# Altium integrated library Opamps.IntLib: 372 symbols (part 1 of 2)
Pins are listed as number, name and electrical type; pins without a type are passive.

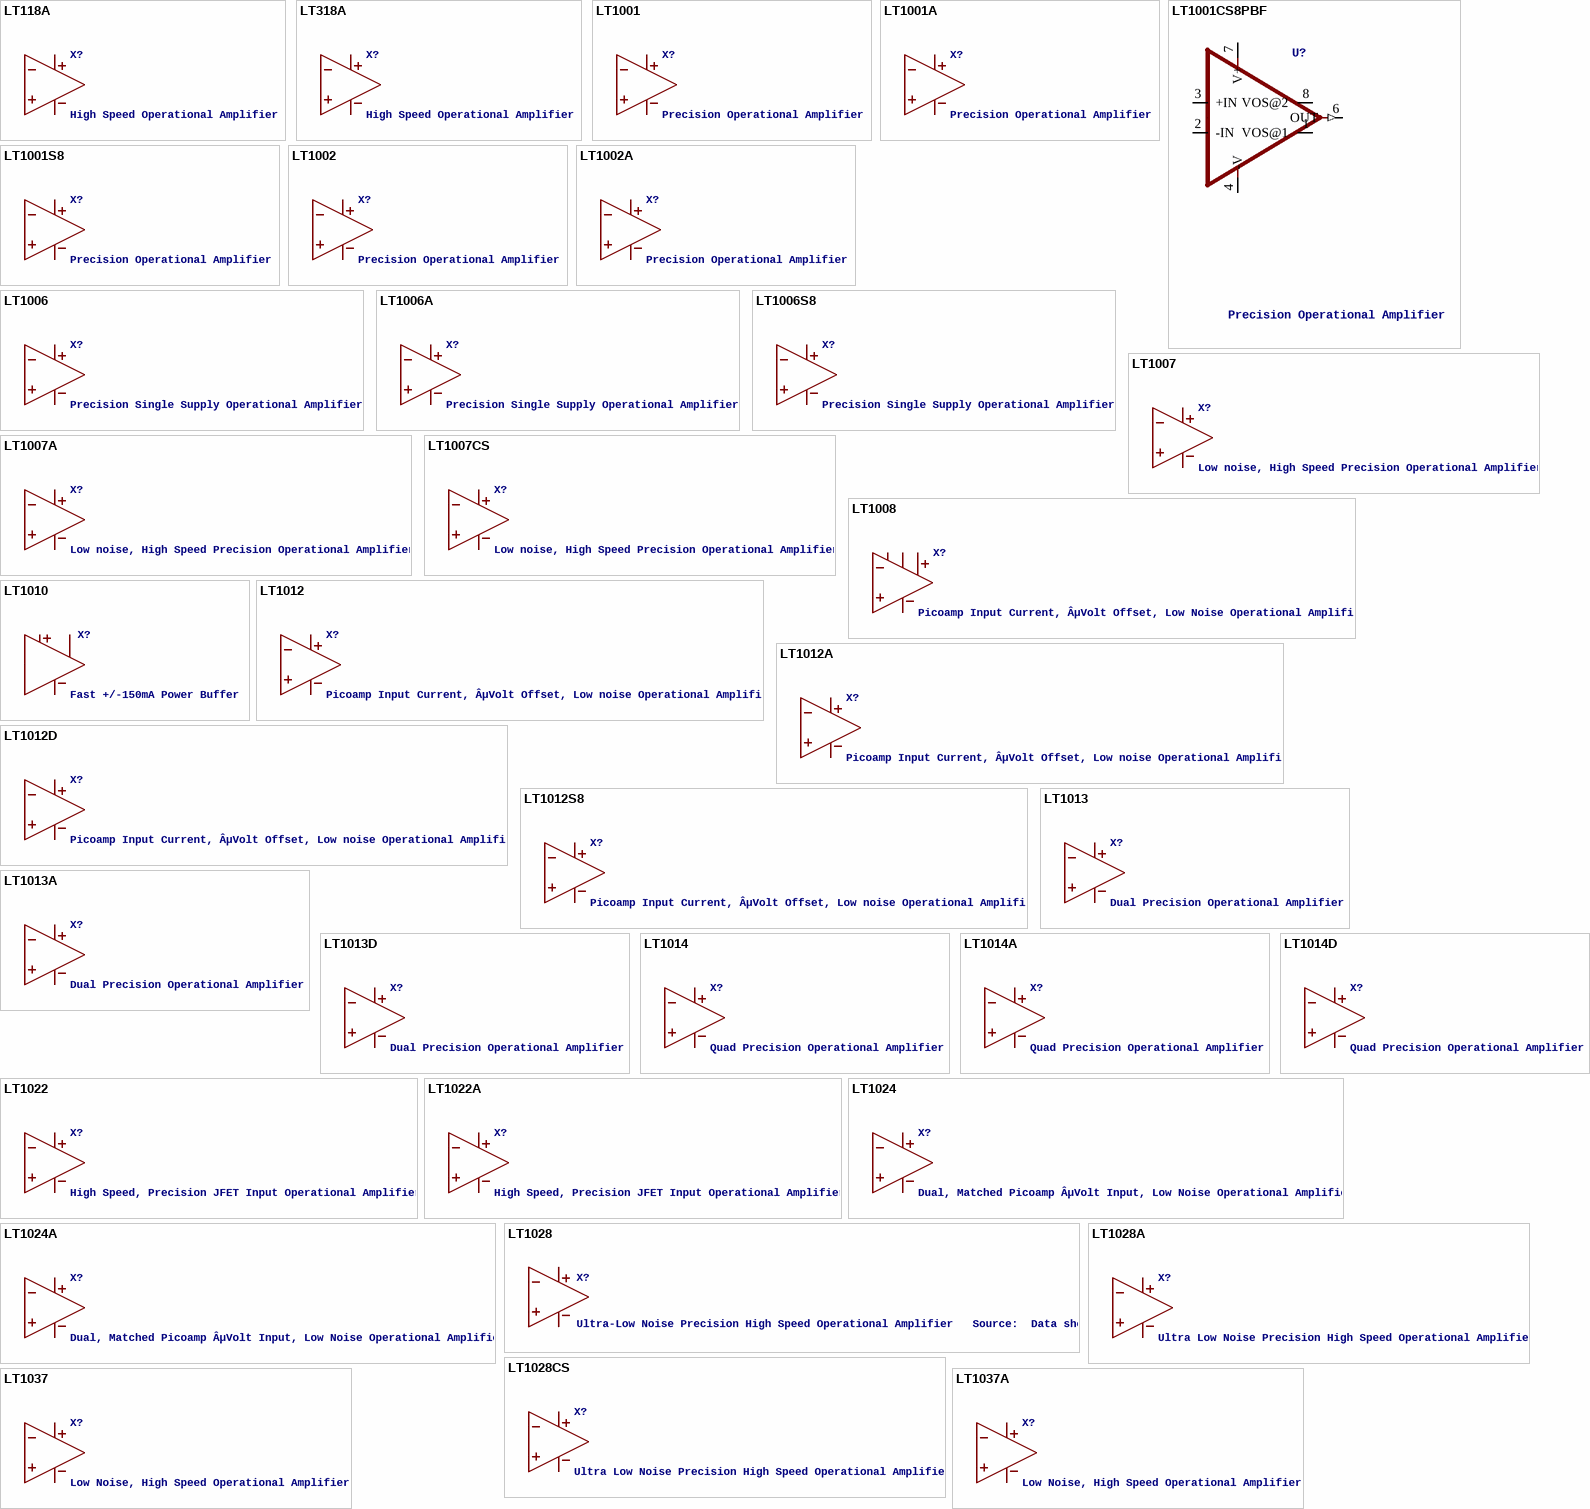
[diagram p0: symbols LT118A to LT1037A]

## LT118A
designator X?, comment High Speed Operational Amplifier
footprint S8
pins: 1 IN-, 2 IN+, 3 OUT, 4 V-, 8 V+

## LT318A
designator X?, comment High Speed Operational Amplifier
footprint S8
pins: 1 IN-, 2 IN+, 3 OUT, 4 V-, 8 V+

## LT1001
designator X?, comment Precision Operational Amplifier
footprint S8
pins: 1 IN+, 2 IN-, 3 OUT, 4 V-, 8 V+

## LT1001A
designator X?, comment Precision Operational Amplifier
footprint S8
pins: 1 IN-, 2 IN+, 3 OUT, 4 V-, 8 V+

## LT1001CS8PBF
designator U?, comment Precision Operational Amplifier
MPN: LT1001CS8#PBF; OC_FARNELL: 1330559; OC_NEWARK: 57M0682; PACKAGE: SOIC-8; SUPPLIER: Linear Technology
footprint SOIC127P600X175-8N
pins: 1 VOS@1, 2 -IN, 3 +IN, 4 -V (power), 5 NC, 6 OUT (out), 7 V+ (power), 8 VOS@2

## LT1001S8
designator X?, comment Precision Operational Amplifier
footprint S8
pins: 1 IN-, 2 IN+, 3 OUT, 4 V-, 8 V+

## LT1002
designator X?, comment Precision Operational Amplifier
footprint DIL14
pins: 3 IN-, 4 IN+, 12 V-, 13 OUT, 14 V+

## LT1002A
designator X?, comment Precision Operational Amplifier
VALUE2: LT1001; SPICEMODEL: LTC.lib
pins: ?1 IN+, ?2 IN-, ?3 V+, ?4 V-, ?5 OUT

## LT1006
designator X?, comment Precision Single Supply Operational Amplifier
footprint S8
pins: 2 IN-, 3 IN+, 4 V-, 6 OUT, 7 V+

## LT1006A
designator X?, comment Precision Single Supply Operational Amplifier
VALUE2: LT1006; SPICEMODEL: LTC.lib
pins: ?1 IN+, ?2 IN-, ?3 V+, ?4 V-, ?5 OUT

## LT1006S8
designator X?, comment Precision Single Supply Operational Amplifier
VALUE2: LT1006; SPICEMODEL: LTC.lib
pins: ?1 IN+, ?2 IN-, ?3 V+, ?4 V-, ?5 OUT

## LT1007
designator X?, comment Low noise, High Speed Precision Operational Amplifier
VALUE2: LT1007; SPICEMODEL: LTC.lib
pins: ?1 IN+, ?2 IN-, ?3 V+, ?4 V-, ?5 OUT

## LT1007A
designator X?, comment Low noise, High Speed Precision Operational Amplifier
VALUE2: LT1007; SPICEMODEL: LTC.lib
pins: ?1 IN+, ?2 IN-, ?3 V+, ?4 V-, ?5 OUT

## LT1007CS
designator X?, comment Low noise, High Speed Precision Operational Amplifier
VALUE2: LT1007; SPICEMODEL: LTC.lib
pins: ?1 IN+, ?2 IN-, ?3 V+, ?4 V-, ?5 OUT

## LT1008
designator X?, comment Picoamp Input Current, ÂµVolt Offset, Low Noise Operational Amplifier
footprint S8
pins: 1 COMP1, 2 IN-, 3 IN+, 4 V-, 6 OUT, 7 V+, 8 COMP2

## LT1010
designator X?, comment Fast +/-150mA Power Buffer
footprint DD8-3X3MM
pins: 1 V+, 2 BIAS, 3 OUT, 6 V-, 8 IN

## LT1012
designator X?, comment Picoamp Input Current, ÂµVolt Offset, Low noise Operational Amplifier
VALUE2: LT1012; SPICEMODEL: LTC.lib
pins: ?1 IN+, ?2 IN-, ?3 V+, ?4 V-, ?5 OUT

## LT1012A
designator X?, comment Picoamp Input Current, ÂµVolt Offset, Low noise Operational Amplifier
VALUE2: LT1012; SPICEMODEL: LTC.lib
pins: ?1 IN+, ?2 IN-, ?3 V+, ?4 V-, ?5 OUT

## LT1012D
designator X?, comment Picoamp Input Current, ÂµVolt Offset, Low noise Operational Amplifier
VALUE2: LT1012; SPICEMODEL: LTC.lib
pins: ?1 IN+, ?2 IN-, ?3 V+, ?4 V-, ?5 OUT

## LT1012S8
designator X?, comment Picoamp Input Current, ÂµVolt Offset, Low noise Operational Amplifier
VALUE2: LT1012; SPICEMODEL: LTC.lib
pins: ?1 IN+, ?2 IN-, ?3 V+, ?4 V-, ?5 OUT

## LT1013
designator X?, comment Dual Precision Operational Amplifier
VALUE2: LT1013; SPICEMODEL: LTC.lib
pins: ?1 IN+, ?2 IN-, ?3 V+, ?4 V-, ?5 OUT

## LT1013A
designator X?, comment Dual Precision Operational Amplifier
VALUE2: LT1013; SPICEMODEL: LTC.lib
pins: ?1 IN+, ?2 IN-, ?3 V+, ?4 V-, ?5 OUT

## LT1013D
designator X?, comment Dual Precision Operational Amplifier
VALUE2: LT1013; SPICEMODEL: LTC.lib
pins: ?1 IN+, ?2 IN-, ?3 V+, ?4 V-, ?5 OUT

## LT1014
designator X?, comment Quad Precision Operational Amplifier
VALUE2: LT1013; SPICEMODEL: LTC.lib
pins: ?1 IN+, ?2 IN-, ?3 V+, ?4 V-, ?5 OUT

## LT1014A
designator X?, comment Quad Precision Operational Amplifier
VALUE2: LT1013; SPICEMODEL: LTC.lib
pins: ?1 IN+, ?2 IN-, ?3 V+, ?4 V-, ?5 OUT

## LT1014D
designator X?, comment Quad Precision Operational Amplifier
VALUE2: LT1013; SPICEMODEL: LTC.lib
pins: ?1 IN+, ?2 IN-, ?3 V+, ?4 V-, ?5 OUT

## LT1022
designator X?, comment High Speed, Precision JFET Input Operational Amplifier
VALUE2: LT1022; SPICEMODEL: LTC.lib
pins: ?1 IN+, ?2 IN-, ?3 V+, ?4 V-, ?5 OUT

## LT1022A
designator X?, comment High Speed, Precision JFET Input Operational Amplifier
VALUE2: LT1022; SPICEMODEL: LTC.lib
pins: ?1 IN+, ?2 IN-, ?3 V+, ?4 V-, ?5 OUT

## LT1024
designator X?, comment Dual, Matched Picoamp ÂµVolt Input, Low Noise Operational Amplifier
VALUE2: LT1012; SPICEMODEL: LTC.lib
pins: ?1 IN+, ?2 IN-, ?3 V+, ?4 V-, ?5 OUT

## LT1024A
designator X?, comment Dual, Matched Picoamp ÂµVolt Input, Low Noise Operational Amplifier
VALUE2: LT1012A; SPICEMODEL: LTC.lib
pins: ?1 IN+, ?2 IN-, ?3 V+, ?4 V-, ?5 OUT

## LT1028
designator X?, comment Ultra-Low Noise Precision High Speed Operational Amplifier   Source:  Data sheet
footprint S8
pins: 2 IN-, 3 IN+, 4 V-, 6 OUT, 8 V+

## LT1028A
designator X?, comment Ultra Low Noise Precision High Speed Operational Amplifier
VALUE2: LT1028; SPICEMODEL: LTC.lib
pins: ?1 IN+, ?2 IN-, ?3 V+, ?4 V-, ?5 OUT

## LT1028CS
designator X?, comment Ultra Low Noise Precision High Speed Operational Amplifier
VALUE2: LT1028; SPICEMODEL: LTC.lib
pins: ?1 IN+, ?2 IN-, ?3 V+, ?4 V-, ?5 OUT

## LT1037
designator X?, comment Low Noise, High Speed Operational Amplifier
VALUE2: LT1037; SPICEMODEL: LTC.lib
pins: ?1 IN+, ?2 IN-, ?3 V+, ?4 V-, ?5 OUT

## LT1037A
designator X?, comment Low Noise, High Speed Operational Amplifier
VALUE2: LT1037; SPICEMODEL: LTC.lib
pins: ?1 IN+, ?2 IN-, ?3 V+, ?4 V-, ?5 OUT

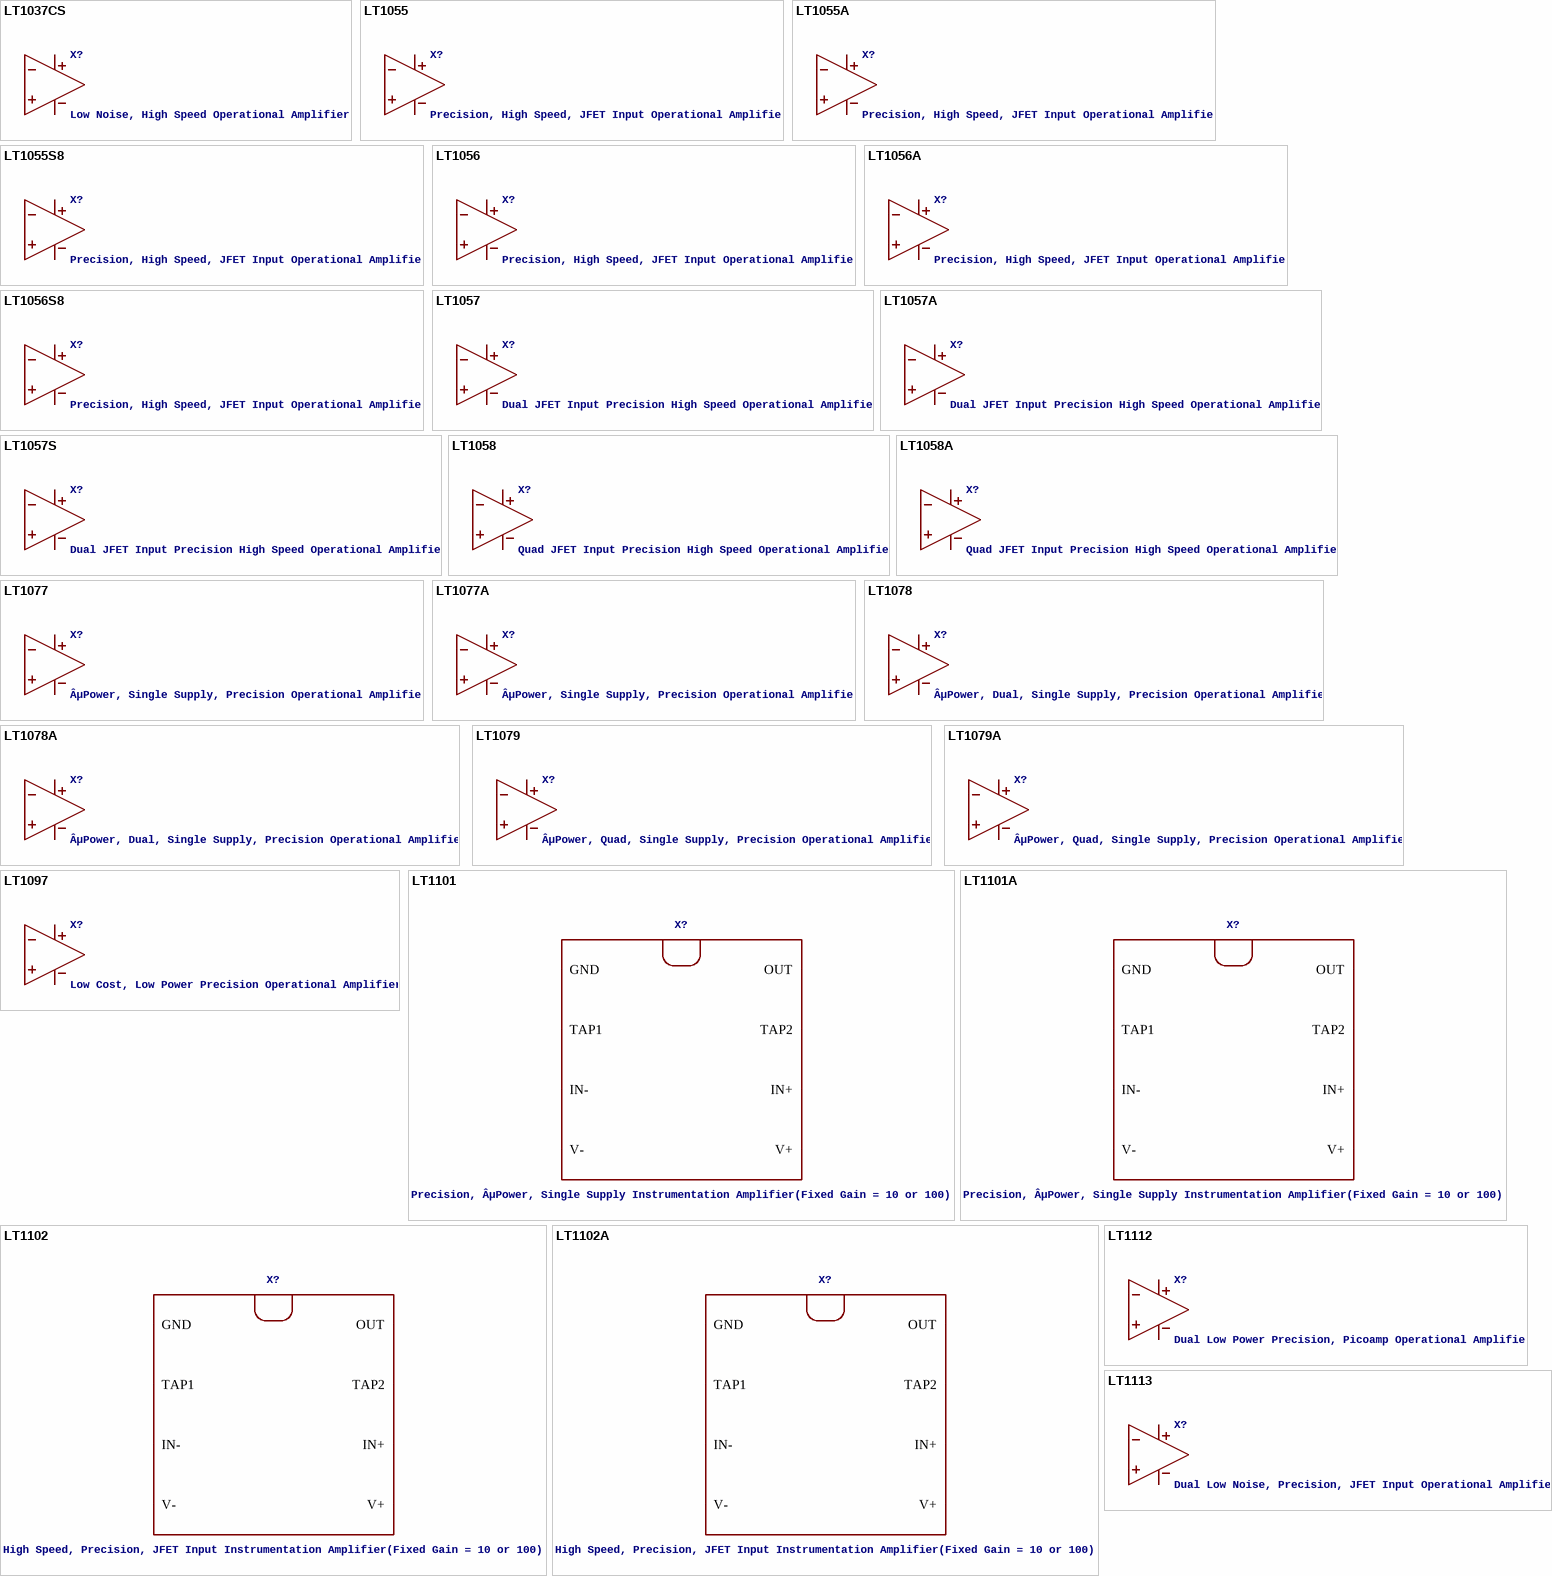
[diagram p1: symbols LT1037CS to LT1113]

## LT1037CS
designator X?, comment Low Noise, High Speed Operational Amplifier
VALUE2: LT1037; SPICEMODEL: LTC.lib
pins: ?1 IN+, ?2 IN-, ?3 V+, ?4 V-, ?5 OUT

## LT1055
designator X?, comment Precision, High Speed, JFET Input Operational Amplifier
VALUE2: LT1055; SPICEMODEL: LTC.lib
pins: ?1 IN+, ?2 IN-, ?3 V+, ?4 V-, ?5 OUT

## LT1055A
designator X?, comment Precision, High Speed, JFET Input Operational Amplifier
VALUE2: LT1055; SPICEMODEL: LTC.lib
pins: ?1 IN+, ?2 IN-, ?3 V+, ?4 V-, ?5 OUT

## LT1055S8
designator X?, comment Precision, High Speed, JFET Input Operational Amplifier
VALUE2: LT1055; SPICEMODEL: LTC.lib
pins: ?1 IN+, ?2 IN-, ?3 V+, ?4 V-, ?5 OUT

## LT1056
designator X?, comment Precision, High Speed, JFET Input Operational Amplifier
VALUE2: LT1056; SPICEMODEL: LTC.lib
pins: ?1 IN+, ?2 IN-, ?3 V+, ?4 V-, ?5 OUT

## LT1056A
designator X?, comment Precision, High Speed, JFET Input Operational Amplifier
VALUE2: LT1056; SPICEMODEL: LTC.lib
pins: ?1 IN+, ?2 IN-, ?3 V+, ?4 V-, ?5 OUT

## LT1056S8
designator X?, comment Precision, High Speed, JFET Input Operational Amplifier
VALUE2: LT1056; SPICEMODEL: LTC.lib
pins: ?1 IN+, ?2 IN-, ?3 V+, ?4 V-, ?5 OUT

## LT1057
designator X?, comment Dual JFET Input Precision High Speed Operational Amplifier
VALUE2: LT1057; SPICEMODEL: LTC.lib
pins: ?1 IN+, ?2 IN-, ?3 V+, ?4 V-, ?5 OUT

## LT1057A
designator X?, comment Dual JFET Input Precision High Speed Operational Amplifier
VALUE2: LT1057; SPICEMODEL: LTC.lib
pins: ?1 IN+, ?2 IN-, ?3 V+, ?4 V-, ?5 OUT

## LT1057S
designator X?, comment Dual JFET Input Precision High Speed Operational Amplifier
VALUE2: LT1057; SPICEMODEL: LTC.lib
pins: ?1 IN+, ?2 IN-, ?3 V+, ?4 V-, ?5 OUT

## LT1058
designator X?, comment Quad JFET Input Precision High Speed Operational Amplifier
VALUE2: LT1057; SPICEMODEL: LTC.lib
pins: ?1 IN+, ?2 IN-, ?3 V+, ?4 V-, ?5 OUT

## LT1058A
designator X?, comment Quad JFET Input Precision High Speed Operational Amplifier
VALUE2: LT1057; SPICEMODEL: LTC.lib
pins: ?1 IN+, ?2 IN-, ?3 V+, ?4 V-, ?5 OUT

## LT1077
designator X?, comment ÂµPower, Single Supply, Precision Operational Amplifier
VALUE2: LT1078; SPICEMODEL: LTC.lib
pins: ?1 IN+, ?2 IN-, ?3 V+, ?4 V-, ?5 OUT

## LT1077A
designator X?, comment ÂµPower, Single Supply, Precision Operational Amplifier
VALUE2: LT1078; SPICEMODEL: LTC.lib
pins: ?1 IN+, ?2 IN-, ?3 V+, ?4 V-, ?5 OUT

## LT1078
designator X?, comment ÂµPower, Dual, Single Supply, Precision Operational Amplifier
VALUE2: LT1078; SPICEMODEL: LTC.lib
pins: ?1 IN+, ?2 IN-, ?3 V+, ?4 V-, ?5 OUT

## LT1078A
designator X?, comment ÂµPower, Dual, Single Supply, Precision Operational Amplifier
VALUE2: LT1078; SPICEMODEL: LTC.lib
pins: ?1 IN+, ?2 IN-, ?3 V+, ?4 V-, ?5 OUT

## LT1079
designator X?, comment ÂµPower, Quad, Single Supply, Precision Operational Amplifier
VALUE2: LT1078; SPICEMODEL: LTC.lib
pins: ?1 IN+, ?2 IN-, ?3 V+, ?4 V-, ?5 OUT

## LT1079A
designator X?, comment ÂµPower, Quad, Single Supply, Precision Operational Amplifier
VALUE2: LT1078; SPICEMODEL: LTC.lib
pins: ?1 IN+, ?2 IN-, ?3 V+, ?4 V-, ?5 OUT

## LT1097
designator X?, comment Low Cost, Low Power Precision Operational Amplifier
VALUE2: LT1097; SPICEMODEL: LTC.lib
pins: ?1 IN+, ?2 IN-, ?3 V+, ?4 V-, ?5 OUT

## LT1101
designator X?, comment Precision, ÂµPower, Single Supply Instrumentation Amplifier(Fixed Gain = 10 or 100)
VALUE2: LT1101; SPICEMODEL: LTC.lib
pins: ?1 GND, ?2 TAP1, ?3 IN-, ?4 V-, ?5 V+, ?6 IN+, ?7 TAP2, ?8 OUT

## LT1101A
designator X?, comment Precision, ÂµPower, Single Supply Instrumentation Amplifier(Fixed Gain = 10 or 100)
VALUE2: LT1101; SPICEMODEL: LTC.lib
pins: ?1 GND, ?2 TAP1, ?3 IN-, ?4 V-, ?5 V+, ?6 IN+, ?7 TAP2, ?8 OUT

## LT1102
designator X?, comment High Speed, Precision, JFET Input Instrumentation Amplifier(Fixed Gain = 10 or 100)
VALUE2: LT1102; SPICEMODEL: LTC.lib
pins: ?1 GND, ?2 TAP1, ?3 IN-, ?4 V-, ?5 V+, ?6 IN+, ?7 TAP2, ?8 OUT

## LT1102A
designator X?, comment High Speed, Precision, JFET Input Instrumentation Amplifier(Fixed Gain = 10 or 100)
VALUE2: LT1102; SPICEMODEL: LTC.lib
pins: ?1 GND, ?2 TAP1, ?3 IN-, ?4 V-, ?5 V+, ?6 IN+, ?7 TAP2, ?8 OUT

## LT1112
designator X?, comment Dual Low Power Precision, Picoamp Operational Amplifier
VALUE2: LT1012; SPICEMODEL: LTC.lib
pins: ?1 IN+, ?2 IN-, ?3 V+, ?4 V-, ?5 OUT

## LT1113
designator X?, comment Dual Low Noise, Precision, JFET Input Operational Amplifier
VALUE2: LT1113; SPICEMODEL: LTC.lib
pins: ?1 IN+, ?2 IN-, ?3 V+, ?4 V-, ?5 OUT

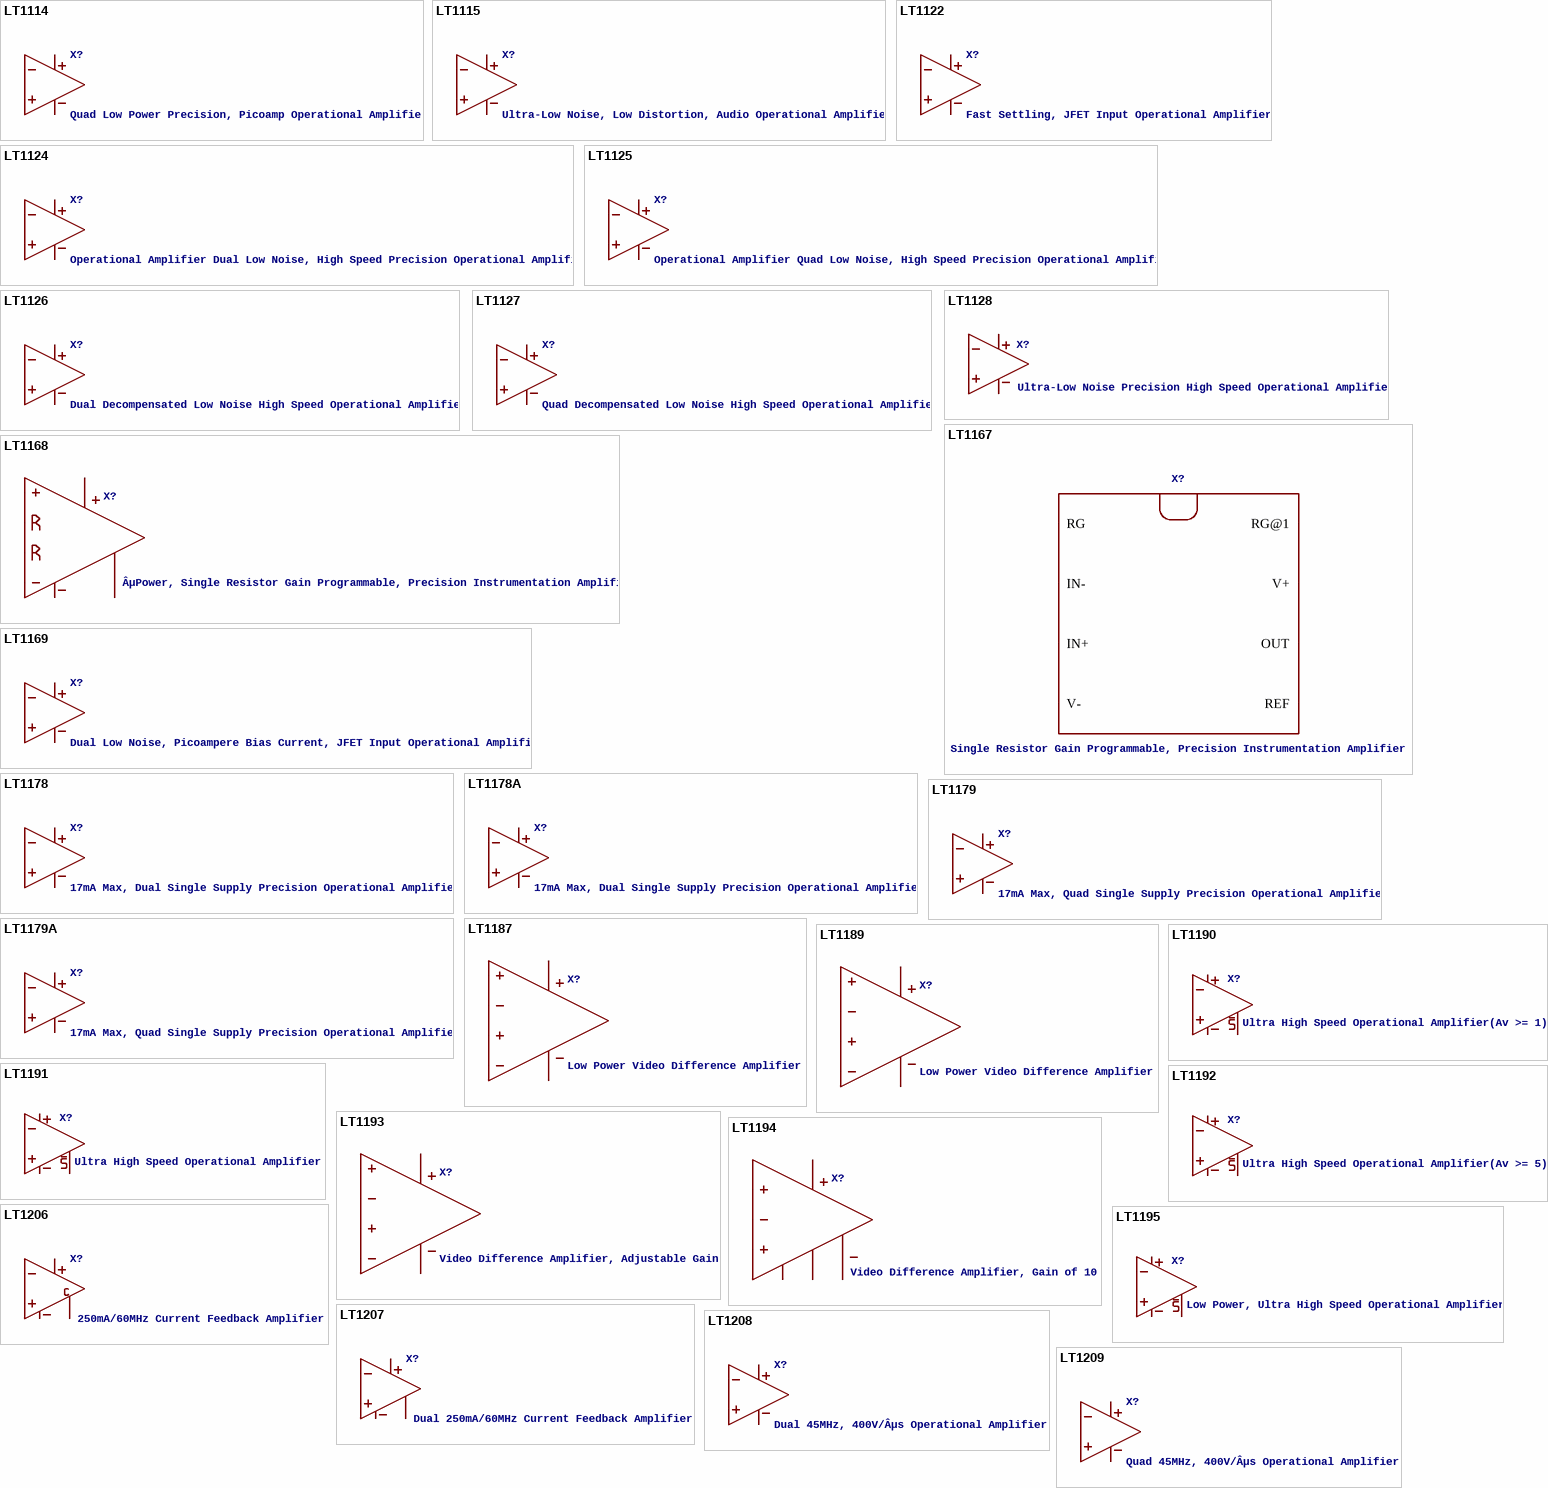
[diagram p2: symbols LT1114 to LT1209]

## LT1114
designator X?, comment Quad Low Power Precision, Picoamp Operational Amplifier
VALUE2: LT1012; SPICEMODEL: LTC.lib
pins: ?1 IN+, ?2 IN-, ?3 V+, ?4 V-, ?5 OUT

## LT1115
designator X?, comment Ultra-Low Noise, Low Distortion, Audio Operational Amplifier
VALUE2: LT1028; SPICEMODEL: LTC.lib
pins: ?1 IN+, ?2 IN-, ?3 V+, ?4 V-, ?5 OUT

## LT1122
designator X?, comment Fast Settling, JFET Input Operational Amplifier
VALUE2: LT1122; SPICEMODEL: LTC.lib
pins: ?1 IN+, ?2 IN-, ?3 V+, ?4 V-, ?5 OUT

## LT1124
designator X?, comment Operational Amplifier Dual Low Noise, High Speed Precision Operational Amplifier
VALUE2: LT1124; SPICEMODEL: LTC.lib
pins: ?1 IN+, ?2 IN-, ?3 V+, ?4 V-, ?5 OUT

## LT1125
designator X?, comment Operational Amplifier Quad Low Noise, High Speed Precision Operational Amplifier
VALUE2: LT1124; SPICEMODEL: LTC.lib
pins: ?1 IN+, ?2 IN-, ?3 V+, ?4 V-, ?5 OUT

## LT1126
designator X?, comment Dual Decompensated Low Noise High Speed Operational Amplifier
VALUE2: LT1126; SPICEMODEL: LTC.lib
pins: ?1 IN+, ?2 IN-, ?3 V+, ?4 V-, ?5 OUT

## LT1127
designator X?, comment Quad Decompensated Low Noise High Speed Operational Amplifier
VALUE2: LT1126; SPICEMODEL: LTC.lib
pins: ?1 IN+, ?2 IN-, ?3 V+, ?4 V-, ?5 OUT

## LT1128
designator X?, comment Ultra-Low Noise Precision High Speed Operational Amplifier
VALUE2: LT1128; SPICEMODEL: LTC.lib
pins: ?1 IN+, ?2 IN-, ?3 V+, ?4 V-, ?5 OUT

## LT1167
designator X?, comment Single Resistor Gain Programmable, Precision Instrumentation Amplifier
VALUE2: LT1167; SPICEMODEL: LTC.lib
pins: ?1 RG, ?2 IN-, ?3 IN+, ?4 V-, ?5 REF, ?6 OUT, ?7 V+, ?8 RG@1

## LT1168
designator X?, comment ÂµPower, Single Resistor Gain Programmable, Precision Instrumentation Amplifier
VALUE2: LT1168; SPICEMODEL: LTC.lib
pins: ?1 RG1, ?2 FB, ?3 IN+, ?4 V-, ?5 REF, ?6 OUT, ?7 V+, ?8 RG2

## LT1169
designator X?, comment Dual Low Noise, Picoampere Bias Current, JFET Input Operational Amplifier
VALUE2: LT1169; SPICEMODEL: LTC.lib
pins: ?1 IN+, ?2 IN-, ?3 V+, ?4 V-, ?5 OUT

## LT1178
designator X?, comment 17mA Max, Dual Single Supply Precision Operational Amplifier
VALUE2: LT1178; SPICEMODEL: LTC.lib
pins: ?1 IN+, ?2 IN-, ?3 V+, ?4 V-, ?5 OUT

## LT1178A
designator X?, comment 17mA Max, Dual Single Supply Precision Operational Amplifier
VALUE2: LT1178; SPICEMODEL: LTC.lib
pins: ?1 IN+, ?2 IN-, ?3 V+, ?4 V-, ?5 OUT

## LT1179
designator X?, comment 17mA Max, Quad Single Supply Precision Operational Amplifier
VALUE2: LT1178; SPICEMODEL: LTC.lib
pins: ?1 IN+, ?2 IN-, ?3 V+, ?4 V-, ?5 OUT

## LT1179A
designator X?, comment 17mA Max, Quad Single Supply Precision Operational Amplifier
VALUE2: LT1178; SPICEMODEL: LTC.lib
pins: ?1 IN+, ?2 IN-, ?3 V+, ?4 V-, ?5 OUT

## LT1187
designator X?, comment Low Power Video Difference Amplifier
VALUE2: LT1187; SPICEMODEL: LTC.lib
pins: ?1 IN+, ?2 IN-, ?3 V+, ?4 V-, ?5 OUT, ?6 REF, ?7 FB

## LT1189
designator X?, comment Low Power Video Difference Amplifier
VALUE2: LT1189; SPICEMODEL: LTC.lib
pins: ?1 IN+, ?2 IN-, ?3 V+, ?4 V-, ?5 OUT, ?6 REF, ?7 FB

## LT1190
designator X?, comment Ultra High Speed Operational Amplifier(Av >= 1)
VALUE2: LT1190; SPICEMODEL: LTC.lib
pins: ?1 IN+, ?2 IN-, ?3 V+, ?4 V-, ?5 OUT, ?6 SHDN

## LT1191
designator X?, comment Ultra High Speed Operational Amplifier
VALUE2: LT1191; SPICEMODEL: LTC.lib
pins: ?1 IN+, ?2 IN-, ?3 V+, ?4 V-, ?5 OUT, ?6 SHDN

## LT1192
designator X?, comment Ultra High Speed Operational Amplifier(Av >= 5)
VALUE2: LT1192; SPICEMODEL: LTC.lib
pins: ?1 IN+, ?2 IN-, ?3 V+, ?4 V-, ?5 OUT, ?6 SHDN

## LT1193
designator X?, comment Video Difference Amplifier, Adjustable Gain
VALUE2: LT1193; SPICEMODEL: LTC.lib
pins: ?1 IN+, ?2 IN-, ?3 V+, ?4 V-, ?5 OUT, ?6 REF, ?7 FB

## LT1194
designator X?, comment Video Difference Amplifier, Gain of 10
VALUE2: LT1194; SPICEMODEL: LTC.lib
pins: ?1 IN+, ?2 IN-, ?3 V+, ?4 V-, ?5 OUT, ?6 REF, ?7 VOS1, ?8 VOS2

## LT1195
designator X?, comment Low Power, Ultra High Speed Operational Amplifier
VALUE2: LT1195; SPICEMODEL: LTC.lib
pins: ?1 IN+, ?2 IN-, ?3 V+, ?4 V-, ?5 OUT, ?6 SHDN

## LT1206
designator X?, comment 250mA/60MHz Current Feedback Amplifier
VALUE2: LT1206; SPICEMODEL: LTC.lib
pins: ?1 IN+, ?2 IN-, ?3 V+, ?4 V-, ?5 OUT, ?6 COMP

## LT1207
designator X?, comment Dual 250mA/60MHz Current Feedback Amplifier
VALUE2: LT1206; SPICEMODEL: LTC.lib
pins: ?1 IN+, ?2 IN-, ?3 V+, ?4 V-, ?5 OUT, ?6 COMP

## LT1208
designator X?, comment Dual 45MHz, 400V/Âµs Operational Amplifier
VALUE2: LT1208; SPICEMODEL: LTC.lib
pins: ?1 IN+, ?2 IN-, ?3 V+, ?4 V-, ?5 OUT

## LT1209
designator X?, comment Quad 45MHz, 400V/Âµs Operational Amplifier
VALUE2: LT1209; SPICEMODEL: LTC.lib
pins: ?1 IN+, ?2 IN-, ?3 V+, ?4 V-, ?5 OUT

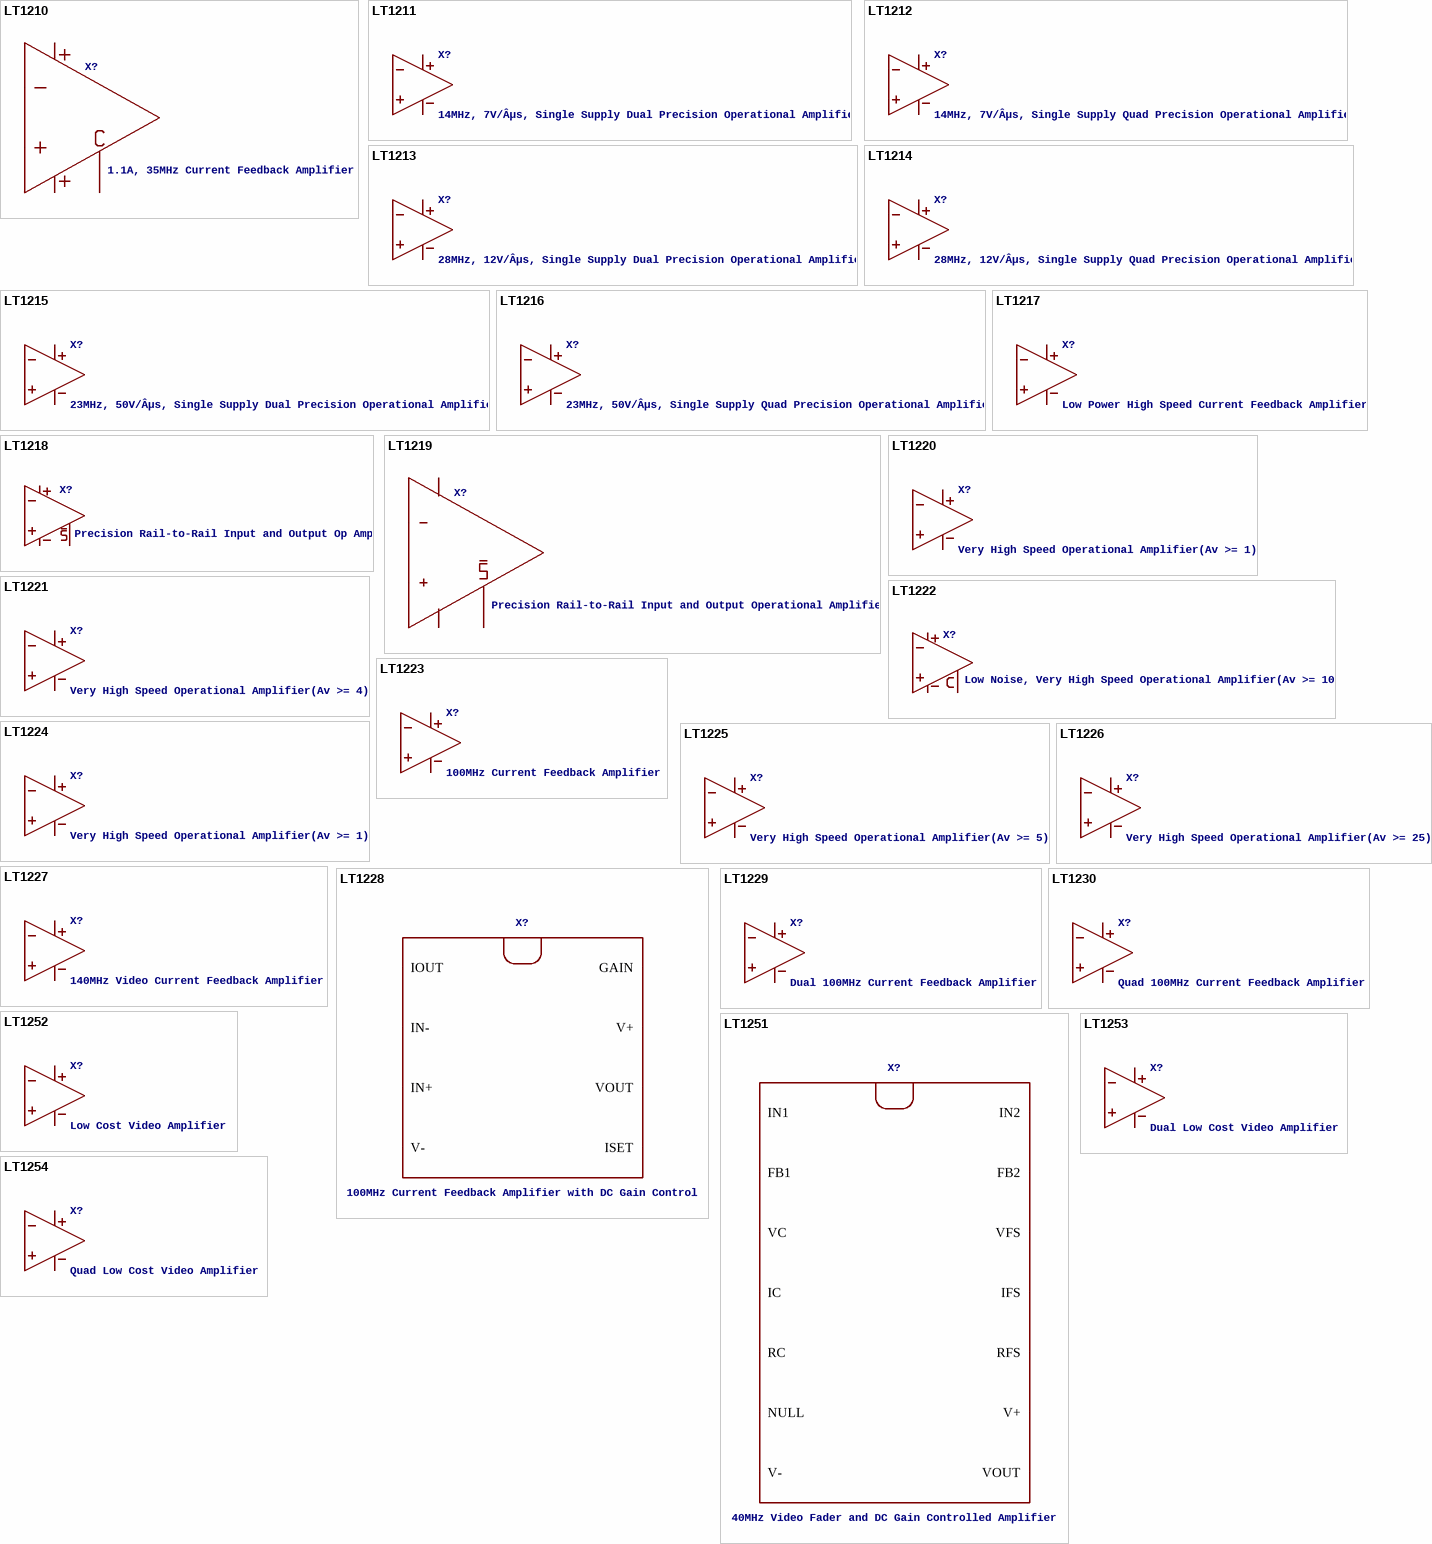
[diagram p3: symbols LT1210 to LT1254]

## LT1210
designator X?, comment 1.1A, 35MHz Current Feedback Amplifier
VALUE2: LT1210; SPICEMODEL: LTC.lib
pins: ?1 IN+, ?2 IN-, ?3 V+, ?4 V-, ?5 OUT, ?6 CMP

## LT1211
designator X?, comment 14MHz, 7V/Âµs, Single Supply Dual Precision Operational Amplifier
VALUE2: LT1211; SPICEMODEL: LTC.lib
pins: ?1 IN+, ?2 IN-, ?3 V+, ?4 V-, ?5 OUT

## LT1212
designator X?, comment 14MHz, 7V/Âµs, Single Supply Quad Precision Operational Amplifier
VALUE2: LT1212; SPICEMODEL: LTC.lib
pins: ?1 IN+, ?2 IN-, ?3 V+, ?4 V-, ?5 OUT

## LT1213
designator X?, comment 28MHz, 12V/Âµs, Single Supply Dual Precision Operational Amplifier
VALUE2: LT1213; SPICEMODEL: LTC.lib
pins: ?1 IN+, ?2 IN-, ?3 V+, ?4 V-, ?5 OUT

## LT1214
designator X?, comment 28MHz, 12V/Âµs, Single Supply Quad Precision Operational Amplifier
VALUE2: LT1214; SPICEMODEL: LTC.lib
pins: ?1 IN+, ?2 IN-, ?3 V+, ?4 V-, ?5 OUT

## LT1215
designator X?, comment 23MHz, 50V/Âµs, Single Supply Dual Precision Operational Amplifier
VALUE2: LT1215; SPICEMODEL: LTC.lib
pins: ?1 IN+, ?2 IN-, ?3 V+, ?4 V-, ?5 OUT

## LT1216
designator X?, comment 23MHz, 50V/Âµs, Single Supply Quad Precision Operational Amplifier
VALUE2: LT1216; SPICEMODEL: LTC.lib
pins: ?1 IN+, ?2 IN-, ?3 V+, ?4 V-, ?5 OUT

## LT1217
designator X?, comment Low Power High Speed Current Feedback Amplifier
VALUE2: LT1217; SPICEMODEL: LTC.lib
pins: ?1 IN+, ?2 IN-, ?3 V+, ?4 V-, ?5 OUT

## LT1218
designator X?, comment Precision Rail-to-Rail Input and Output Op Amp
VALUE2: LT1192; SPICEMODEL: LTC.lib
pins: ?1 IN+, ?2 IN-, ?3 V+, ?4 V-, ?5 OUT, ?6 SHDN

## LT1219
designator X?, comment Precision Rail-to-Rail Input and Output Operational Amplifier
VALUE2: LT1219; SPICEMODEL: LTC.lib
pins: ?1 IN+, ?2 IN-, ?3 V+, ?4 V-, ?5 OUT, ?6 SHDN

## LT1220
designator X?, comment Very High Speed Operational Amplifier(Av >= 1)
VALUE2: LT1220; SPICEMODEL: LTC.lib
pins: ?1 IN+, ?2 IN-, ?3 V+, ?4 V-, ?5 OUT

## LT1221
designator X?, comment Very High Speed Operational Amplifier(Av >= 4)
VALUE2: LT1221; SPICEMODEL: LTC.lib
pins: ?1 IN+, ?2 IN-, ?3 V+, ?4 V-, ?5 OUT

## LT1222
designator X?, comment Low Noise, Very High Speed Operational Amplifier(Av >= 10)
VALUE2: LT1222; SPICEMODEL: LTC.lib
pins: ?1 IN+, ?2 IN-, ?3 V+, ?4 V-, ?5 OUT, ?6 COMP

## LT1223
designator X?, comment 100MHz Current Feedback Amplifier
VALUE2: LT1223; SPICEMODEL: LTC.lib
pins: ?1 IN+, ?2 IN-, ?3 V+, ?4 V-, ?5 OUT

## LT1224
designator X?, comment Very High Speed Operational Amplifier(Av >= 1)
VALUE2: LT1224; SPICEMODEL: LTC.lib
pins: ?1 IN+, ?2 IN-, ?3 V+, ?4 V-, ?5 OUT

## LT1225
designator X?, comment Very High Speed Operational Amplifier(Av >= 5)
VALUE2: LT1225; SPICEMODEL: LTC.lib
pins: ?1 IN+, ?2 IN-, ?3 V+, ?4 V-, ?5 OUT

## LT1226
designator X?, comment Very High Speed Operational Amplifier(Av >= 25)
VALUE2: LT1226; SPICEMODEL: LTC.lib
pins: ?1 IN+, ?2 IN-, ?3 V+, ?4 V-, ?5 OUT

## LT1227
designator X?, comment 140MHz Video Current Feedback Amplifier
VALUE2: LT1227; SPICEMODEL: LTC.lib
pins: ?1 IN+, ?2 IN-, ?3 V+, ?4 V-, ?5 OUT

## LT1228
designator X?, comment 100MHz Current Feedback Amplifier with DC Gain Control
VALUE2: LT1228; SPICEMODEL: LTC.lib
pins: ?1 IOUT, ?2 IN-, ?3 IN+, ?4 V-, ?5 ISET, ?6 VOUT, ?7 V+, ?8 GAIN

## LT1229
designator X?, comment Dual 100MHz Current Feedback Amplifier
VALUE2: LT1229; SPICEMODEL: LTC.lib
pins: ?1 IN+, ?2 IN-, ?3 V+, ?4 V-, ?5 OUT

## LT1230
designator X?, comment Quad 100MHz Current Feedback Amplifier
VALUE2: LT1229; SPICEMODEL: LTC.lib
pins: ?1 IN+, ?2 IN-, ?3 V+, ?4 V-, ?5 OUT

## LT1251
designator X?, comment 40MHz Video Fader and DC Gain Controlled Amplifier
VALUE2: LT1251; SPICEMODEL: LTC.lib
pins: ?1 IN1, ?2 FB1, ?3 VC, ?4 IC, ?5 RC, ?6 NULL, ?7 V-, ?8 VOUT, ?9 V+, ?10 RFS, ?11 IFS, ?12 VFS, ?13 FB2, ?14 IN2

## LT1252
designator X?, comment Low Cost Video Amplifier
VALUE2: LT1252; SPICEMODEL: LTC.lib
pins: ?1 IN+, ?2 IN-, ?3 V+, ?4 V-, ?5 OUT

## LT1253
designator X?, comment Dual Low Cost Video Amplifier
VALUE2: LT1253; SPICEMODEL: LTC.lib
pins: ?1 IN+, ?2 IN-, ?3 V+, ?4 V-, ?5 OUT

## LT1254
designator X?, comment Quad Low Cost Video Amplifier
VALUE2: LT1254; SPICEMODEL: LTC.lib
pins: ?1 IN+, ?2 IN-, ?3 V+, ?4 V-, ?5 OUT

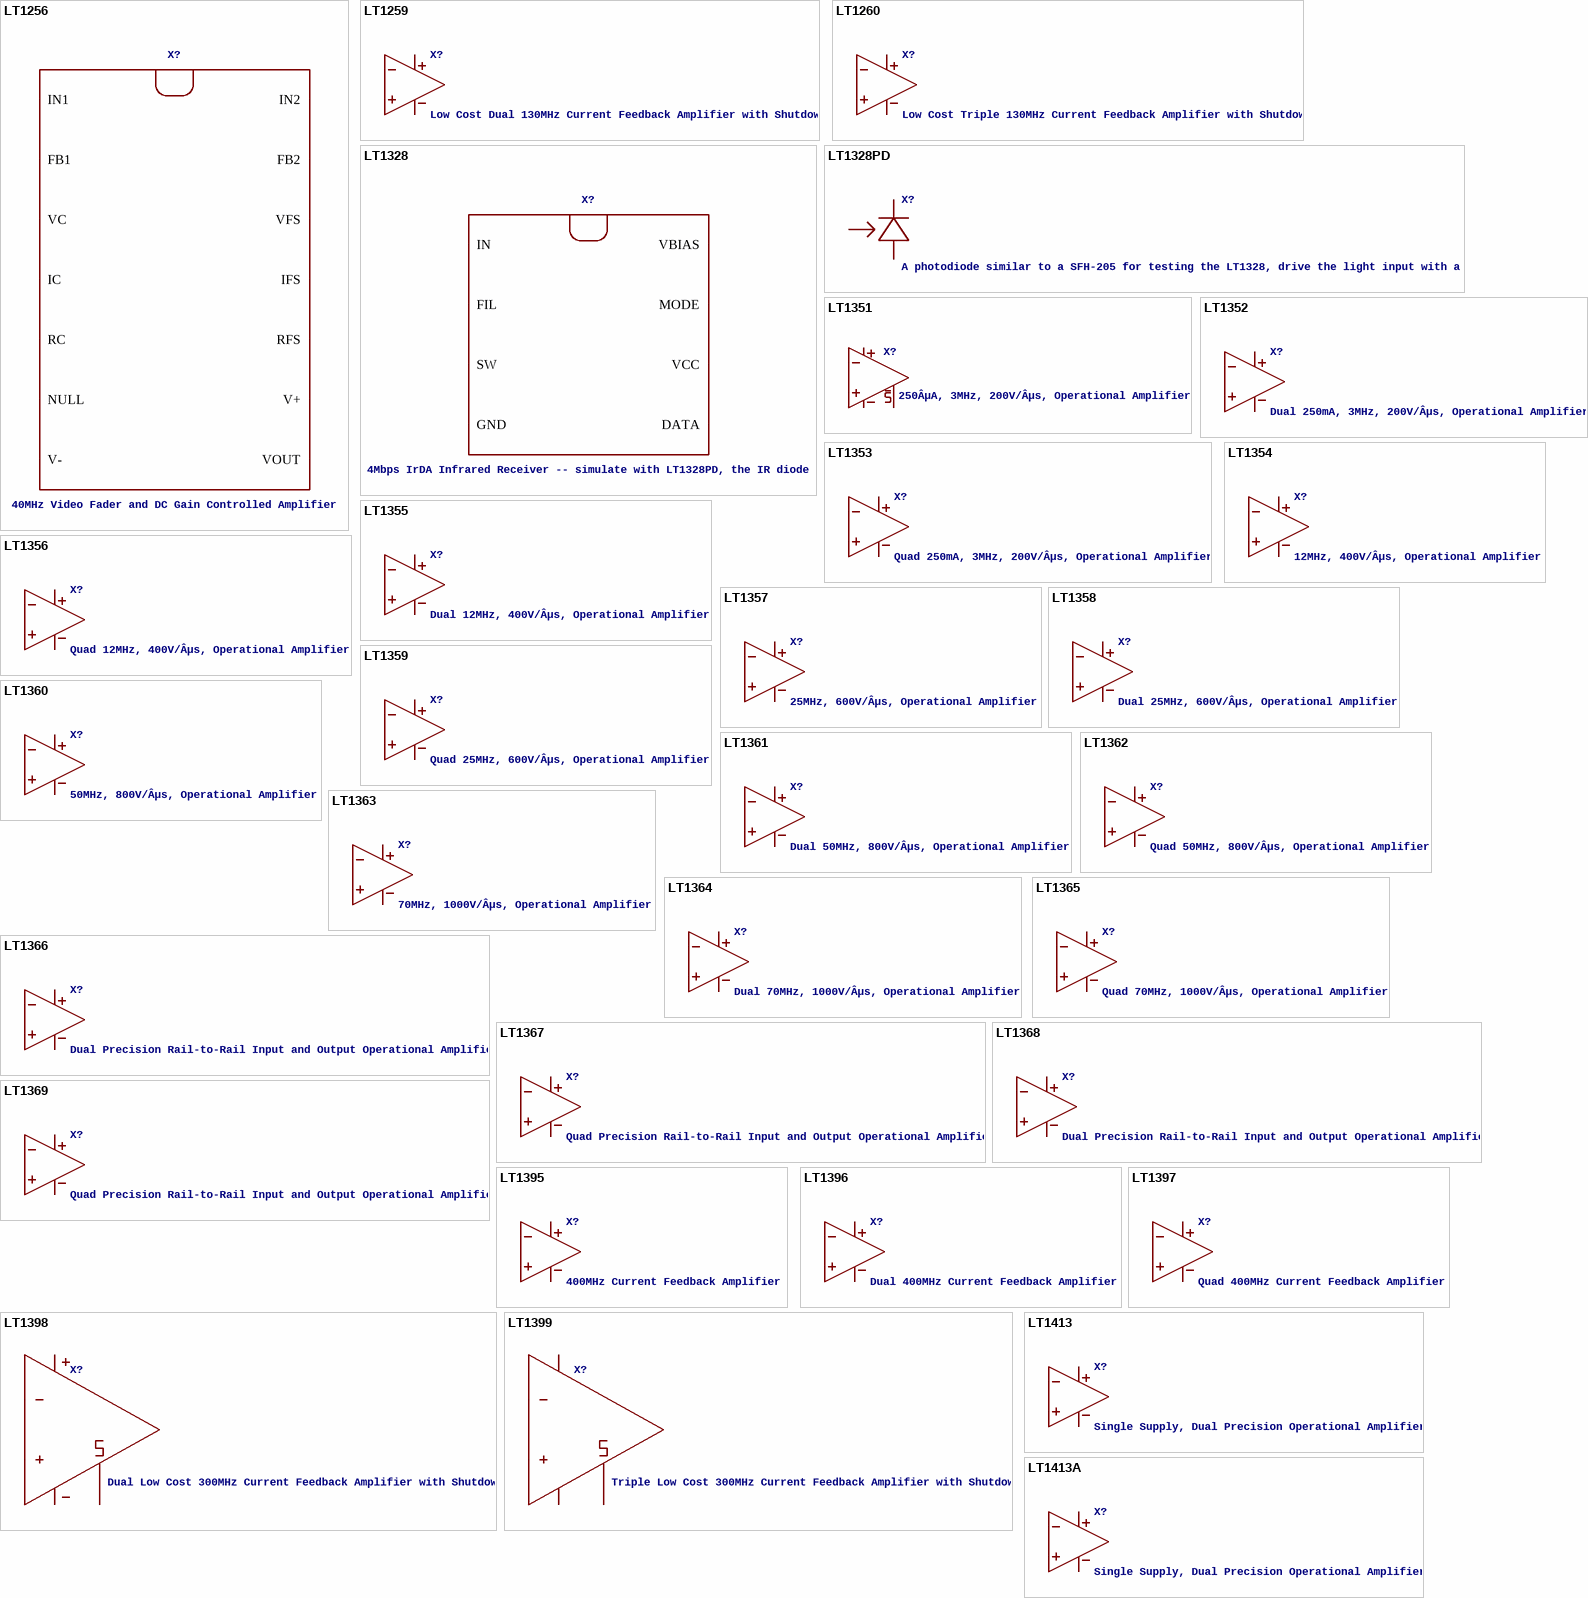
[diagram p4: symbols LT1256 to LT1413A]

## LT1256
designator X?, comment 40MHz Video Fader and DC Gain Controlled Amplifier
VALUE2: LT1256; SPICEMODEL: LTC.lib
pins: ?1 IN1, ?2 FB1, ?3 VC, ?4 IC, ?5 RC, ?6 NULL, ?7 V-, ?8 VOUT, ?9 V+, ?10 RFS, ?11 IFS, ?12 VFS, ?13 FB2, ?14 IN2

## LT1259
designator X?, comment Low Cost Dual 130MHz Current Feedback Amplifier with Shutdown
VALUE2: LT1259; SPICEMODEL: LTC.lib
pins: ?1 IN+, ?2 IN-, ?3 V+, ?4 V-, ?5 OUT

## LT1260
designator X?, comment Low Cost Triple 130MHz Current Feedback Amplifier with Shutdown
VALUE2: LT1259; SPICEMODEL: LTC.lib
pins: ?1 IN+, ?2 IN-, ?3 V+, ?4 V-, ?5 OUT

## LT1328
designator X?, comment 4Mbps IrDA Infrared Receiver -- simulate with LT1328PD, the IR diode
VALUE2: LT1328; SPICEMODEL: LTC.lib
pins: ?1 IN, ?2 FIL, ?3 SW, ?4 GND, ?5 DATA, ?6 VCC, ?7 MODE, ?8 VBIAS

## LT1328PD
designator X?, comment A photodiode similar to a SFH-205 for testing the LT1328, drive the light input with a current source
VALUE2: LT1328PD; SPICEMODEL: LTC.lib
pins: ?1 A, ?2 C, ?3 L

## LT1351
designator X?, comment 250ÂµA, 3MHz, 200V/Âµs, Operational Amplifier
VALUE2: LT1351; SPICEMODEL: LTC.lib
pins: ?1 IN+, ?2 IN-, ?3 V+, ?4 V-, ?5 OUT, ?6 SHDN

## LT1352
designator X?, comment Dual 250mA, 3MHz, 200V/Âµs, Operational Amplifier
VALUE2: LT1352; SPICEMODEL: LTC.lib
pins: ?1 IN+, ?2 IN-, ?3 V+, ?4 V-, ?5 OUT

## LT1353
designator X?, comment Quad 250mA, 3MHz, 200V/Âµs, Operational Amplifier
VALUE2: LT1352; SPICEMODEL: LTC.lib
pins: ?1 IN+, ?2 IN-, ?3 V+, ?4 V-, ?5 OUT

## LT1354
designator X?, comment 12MHz, 400V/Âµs, Operational Amplifier
VALUE2: LT1354; SPICEMODEL: LTC.lib
pins: ?1 IN+, ?2 IN-, ?3 V+, ?4 V-, ?5 OUT

## LT1355
designator X?, comment Dual 12MHz, 400V/Âµs, Operational Amplifier
VALUE2: LT1354; SPICEMODEL: LTC.lib
pins: ?1 IN+, ?2 IN-, ?3 V+, ?4 V-, ?5 OUT

## LT1356
designator X?, comment Quad 12MHz, 400V/Âµs, Operational Amplifier
VALUE2: LT1354; SPICEMODEL: LTC.lib
pins: ?1 IN+, ?2 IN-, ?3 V+, ?4 V-, ?5 OUT

## LT1357
designator X?, comment 25MHz, 600V/Âµs, Operational Amplifier
VALUE2: LT1357; SPICEMODEL: LTC.lib
pins: ?1 IN+, ?2 IN-, ?3 V+, ?4 V-, ?5 OUT

## LT1358
designator X?, comment Dual 25MHz, 600V/Âµs, Operational Amplifier
VALUE2: LT1357; SPICEMODEL: LTC.lib
pins: ?1 IN+, ?2 IN-, ?3 V+, ?4 V-, ?5 OUT

## LT1359
designator X?, comment Quad 25MHz, 600V/Âµs, Operational Amplifier
VALUE2: LT1357; SPICEMODEL: LTC.lib
pins: ?1 IN+, ?2 IN-, ?3 V+, ?4 V-, ?5 OUT

## LT1360
designator X?, comment 50MHz, 800V/Âµs, Operational Amplifier
VALUE2: LT1360; SPICEMODEL: LTC.lib
pins: ?1 IN+, ?2 IN-, ?3 V+, ?4 V-, ?5 OUT

## LT1361
designator X?, comment Dual 50MHz, 800V/Âµs, Operational Amplifier
VALUE2: LT1360; SPICEMODEL: LTC.lib
pins: ?1 IN+, ?2 IN-, ?3 V+, ?4 V-, ?5 OUT

## LT1362
designator X?, comment Quad 50MHz, 800V/Âµs, Operational Amplifier
VALUE2: LT1360; SPICEMODEL: LTC.lib
pins: ?1 IN+, ?2 IN-, ?3 V+, ?4 V-, ?5 OUT

## LT1363
designator X?, comment 70MHz, 1000V/Âµs, Operational Amplifier
VALUE2: LT1363; SPICEMODEL: LTC.lib
pins: ?1 IN+, ?2 IN-, ?3 V+, ?4 V-, ?5 OUT

## LT1364
designator X?, comment Dual 70MHz, 1000V/Âµs, Operational Amplifier
VALUE2: LT1363; SPICEMODEL: LTC.lib
pins: ?1 IN+, ?2 IN-, ?3 V+, ?4 V-, ?5 OUT

## LT1365
designator X?, comment Quad 70MHz, 1000V/Âµs, Operational Amplifier
VALUE2: LT1363; SPICEMODEL: LTC.lib
pins: ?1 IN+, ?2 IN-, ?3 V+, ?4 V-, ?5 OUT

## LT1366
designator X?, comment Dual Precision Rail-to-Rail Input and Output Operational Amplifier
VALUE2: LT1366; SPICEMODEL: LTC.lib
pins: ?1 IN+, ?2 IN-, ?3 V+, ?4 V-, ?5 OUT

## LT1367
designator X?, comment Quad Precision Rail-to-Rail Input and Output Operational Amplifier
VALUE2: LT1366; SPICEMODEL: LTC.lib
pins: ?1 IN+, ?2 IN-, ?3 V+, ?4 V-, ?5 OUT

## LT1368
designator X?, comment Dual Precision Rail-to-Rail Input and Output Operational Amplifier
VALUE2: LT1368; SPICEMODEL: LTC.lib
pins: ?1 IN+, ?2 IN-, ?3 V+, ?4 V-, ?5 OUT

## LT1369
designator X?, comment Quad Precision Rail-to-Rail Input and Output Operational Amplifier
VALUE2: LT1368; SPICEMODEL: LTC.lib
pins: ?1 IN+, ?2 IN-, ?3 V+, ?4 V-, ?5 OUT

## LT1395
designator X?, comment 400MHz Current Feedback Amplifier
VALUE2: LT1395; SPICEMODEL: LTC.lib
pins: ?1 IN+, ?2 IN-, ?3 V+, ?4 V-, ?5 OUT

## LT1396
designator X?, comment Dual 400MHz Current Feedback Amplifier
VALUE2: LT1395; SPICEMODEL: LTC.lib
pins: ?1 IN+, ?2 IN-, ?3 V+, ?4 V-, ?5 OUT

## LT1397
designator X?, comment Quad 400MHz Current Feedback Amplifier
VALUE2: LT1395; SPICEMODEL: LTC.lib
pins: ?1 IN+, ?2 IN-, ?3 V+, ?4 V-, ?5 OUT

## LT1398
designator X?, comment Dual Low Cost 300MHz Current Feedback Amplifier with Shutdown
VALUE2: LT1398; SPICEMODEL: LTC.lib
pins: ?1 IN+, ?2 IN-, ?3 V+, ?4 V-, ?5 OUT, ?6 SHDN

## LT1399
designator X?, comment Triple Low Cost 300MHz Current Feedback Amplifier with Shutdown
VALUE2: LT1398; SPICEMODEL: LTC.lib
pins: ?1 IN+, ?2 IN-, ?3 V+, ?4 V-, ?5 OUT, ?6 SHDN

## LT1413
designator X?, comment Single Supply, Dual Precision Operational Amplifier
VALUE2: LT1413; SPICEMODEL: LTC.lib
pins: ?1 IN+, ?2 IN-, ?3 V+, ?4 V-, ?5 OUT

## LT1413A
designator X?, comment Single Supply, Dual Precision Operational Amplifier
VALUE2: LT1413; SPICEMODEL: LTC.lib
pins: ?1 IN+, ?2 IN-, ?3 V+, ?4 V-, ?5 OUT

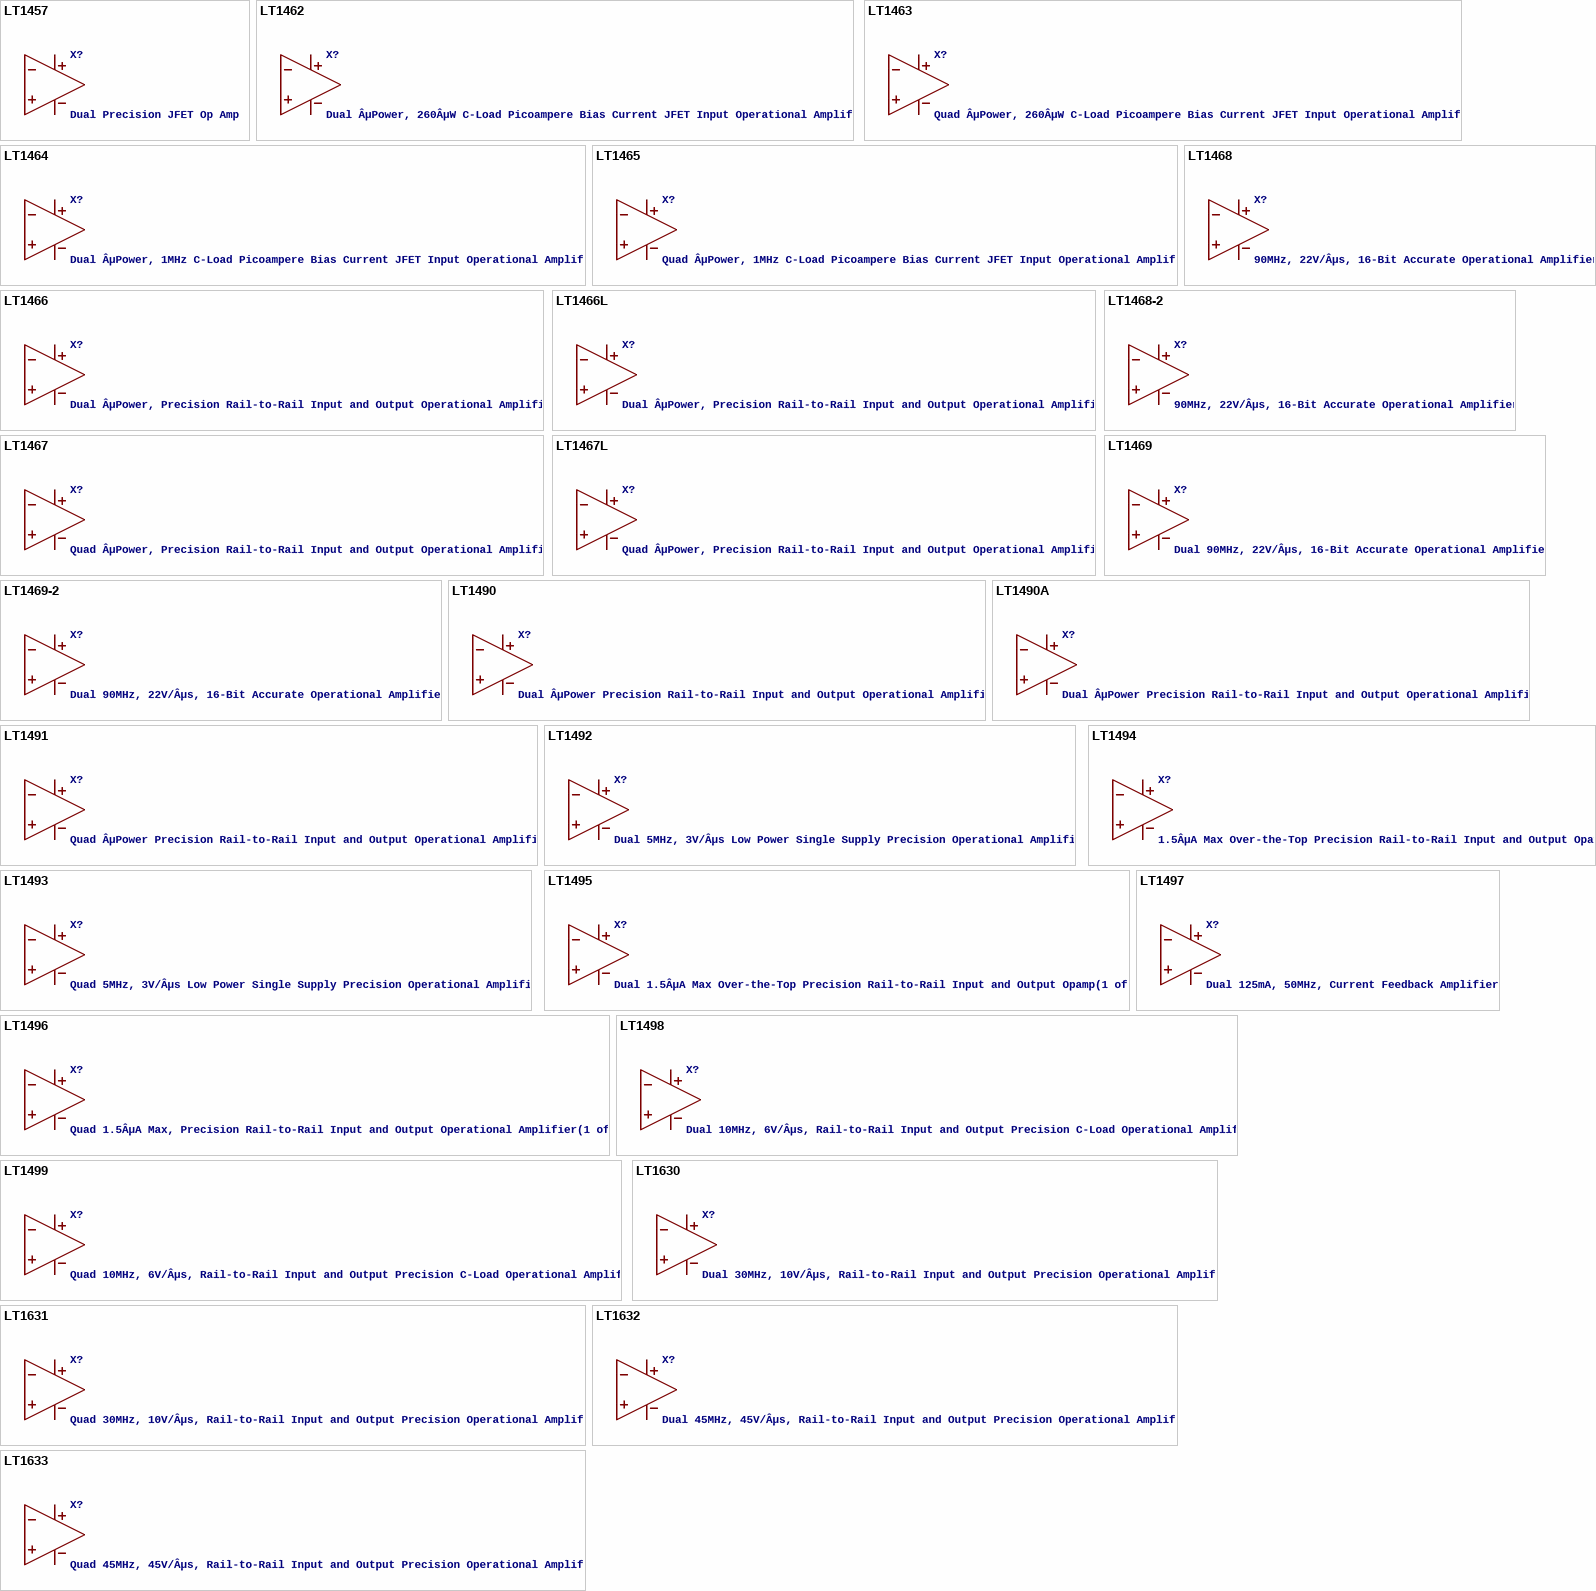
[diagram p5: symbols LT1457 to LT1633]

## LT1457
designator X?, comment Dual Precision JFET Op Amp
VALUE2: LT1457; SPICEMODEL: LTC2.LIB
pins: ?1 IN+, ?2 IN-, ?3 OUT, ?4 VCC, ?5 VEE

## LT1462
designator X?, comment Dual ÂµPower, 260ÂµW C-Load Picoampere Bias Current JFET Input Operational Amplifier
VALUE2: LT1462; SPICEMODEL: LTC.lib
pins: ?1 IN+, ?2 IN-, ?3 V+, ?4 V-, ?5 OUT

## LT1463
designator X?, comment Quad ÂµPower, 260ÂµW C-Load Picoampere Bias Current JFET Input Operational Amplifier
VALUE2: LT1462; SPICEMODEL: LTC.lib
pins: ?1 IN+, ?2 IN-, ?3 V+, ?4 V-, ?5 OUT

## LT1464
designator X?, comment Dual ÂµPower, 1MHz C-Load Picoampere Bias Current JFET Input Operational Amplifier
VALUE2: LT1464; SPICEMODEL: LTC.lib
pins: ?1 IN+, ?2 IN-, ?3 V+, ?4 V-, ?5 OUT

## LT1465
designator X?, comment Quad ÂµPower, 1MHz C-Load Picoampere Bias Current JFET Input Operational Amplifier
VALUE2: LT1464; SPICEMODEL: LTC.lib
pins: ?1 IN+, ?2 IN-, ?3 V+, ?4 V-, ?5 OUT

## LT1466
designator X?, comment Dual ÂµPower, Precision Rail-to-Rail Input and Output Operational Amplifier
VALUE2: LT1466; SPICEMODEL: LTC.lib
pins: ?1 IN+, ?2 IN-, ?3 V+, ?4 V-, ?5 OUT

## LT1466L
designator X?, comment Dual ÂµPower, Precision Rail-to-Rail Input and Output Operational Amplifier
VALUE2: LT1466; SPICEMODEL: LTC.lib
pins: ?1 IN+, ?2 IN-, ?3 V+, ?4 V-, ?5 OUT

## LT1467
designator X?, comment Quad ÂµPower, Precision Rail-to-Rail Input and Output Operational Amplifier
VALUE2: LT1466; SPICEMODEL: LTC.lib
pins: ?1 IN+, ?2 IN-, ?3 V+, ?4 V-, ?5 OUT

## LT1467L
designator X?, comment Quad ÂµPower, Precision Rail-to-Rail Input and Output Operational Amplifier
VALUE2: LT1466; SPICEMODEL: LTC.lib
pins: ?1 IN+, ?2 IN-, ?3 V+, ?4 V-, ?5 OUT

## LT1468
designator X?, comment 90MHz, 22V/Âµs, 16-Bit Accurate Operational Amplifier
VALUE2: LT1468; SPICEMODEL: LTC.lib
pins: ?1 IN+, ?2 IN-, ?3 V+, ?4 V-, ?5 OUT

## LT1468-2
designator X?, comment 90MHz, 22V/Âµs, 16-Bit Accurate Operational Amplifier
VALUE2: LT1468-2; SPICEMODEL: LTC4.lib
pins: ?1 IN+, ?2 IN-, ?3 V+, ?4 V-, ?5 OUT

## LT1469
designator X?, comment Dual 90MHz, 22V/Âµs, 16-Bit Accurate Operational Amplifier
VALUE2: LT1468; SPICEMODEL: LTC.lib
pins: ?1 IN+, ?2 IN-, ?3 V+, ?4 V-, ?5 OUT

## LT1469-2
designator X?, comment Dual 90MHz, 22V/Âµs, 16-Bit Accurate Operational Amplifier
VALUE2: LT1468-2; SPICEMODEL: LTC4.lib
pins: ?1 IN+, ?2 IN-, ?3 V+, ?4 V-, ?5 OUT

## LT1490
designator X?, comment Dual ÂµPower Precision Rail-to-Rail Input and Output Operational Amplifier
VALUE2: LT1490A; SPICEMODEL: LTC.lib
pins: ?1 IN+, ?2 IN-, ?3 V+, ?4 V-, ?5 OUT

## LT1490A
designator X?, comment Dual ÂµPower Precision Rail-to-Rail Input and Output Operational Amplifier
VALUE2: LT1490A; SPICEMODEL: LTC.lib
pins: ?1 IN+, ?2 IN-, ?3 V+, ?4 V-, ?5 OUT

## LT1491
designator X?, comment Quad ÂµPower Precision Rail-to-Rail Input and Output Operational Amplifier
VALUE2: LT1490A; SPICEMODEL: LTC.lib
pins: ?1 IN+, ?2 IN-, ?3 V+, ?4 V-, ?5 OUT

## LT1492
designator X?, comment Dual 5MHz, 3V/Âµs Low Power Single Supply Precision Operational Amplifier
VALUE2: LT1492; SPICEMODEL: LTC.lib
pins: ?1 IN+, ?2 IN-, ?3 V+, ?4 V-, ?5 OUT

## LT1493
designator X?, comment Quad 5MHz, 3V/Âµs Low Power Single Supply Precision Operational Amplifier
VALUE2: LT1492; SPICEMODEL: LTC.lib
pins: ?1 IN+, ?2 IN-, ?3 V+, ?4 V-, ?5 OUT

## LT1494
designator X?, comment 1.5ÂµA Max Over-the-Top Precision Rail-to-Rail Input and Output Opamp
VALUE2: LT1494; SPICEMODEL: LTC.lib
pins: ?1 IN+, ?2 IN-, ?3 V+, ?4 V-, ?5 OUT

## LT1495
designator X?, comment Dual 1.5ÂµA Max Over-the-Top Precision Rail-to-Rail Input and Output Opamp(1 of 2)
VALUE2: LT1494; SPICEMODEL: LTC.lib
pins: ?1 IN+, ?2 IN-, ?3 V+, ?4 V-, ?5 OUT

## LT1496
designator X?, comment Quad 1.5ÂµA Max, Precision Rail-to-Rail Input and Output Operational Amplifier(1 of 4)
VALUE2: LT1494; SPICEMODEL: LTC.lib
pins: ?1 IN+, ?2 IN-, ?3 V+, ?4 V-, ?5 OUT

## LT1497
designator X?, comment Dual 125mA, 50MHz, Current Feedback Amplifier
VALUE2: LT1497; SPICEMODEL: LTC.lib
pins: ?1 IN+, ?2 IN-, ?3 V+, ?4 V-, ?5 OUT

## LT1498
designator X?, comment Dual 10MHz, 6V/Âµs, Rail-to-Rail Input and Output Precision C-Load Operational Amplifier
VALUE2: LT1498; SPICEMODEL: LTC.lib
pins: ?1 IN+, ?2 IN-, ?3 V+, ?4 V-, ?5 OUT

## LT1499
designator X?, comment Quad 10MHz, 6V/Âµs, Rail-to-Rail Input and Output Precision C-Load Operational Amplifier
VALUE2: LT1498; SPICEMODEL: LTC.lib
pins: ?1 IN+, ?2 IN-, ?3 V+, ?4 V-, ?5 OUT

## LT1630
designator X?, comment Dual 30MHz, 10V/Âµs, Rail-to-Rail Input and Output Precision Operational Amplifier
VALUE2: LT1630; SPICEMODEL: LTC.lib
pins: ?1 IN+, ?2 IN-, ?3 V+, ?4 V-, ?5 OUT

## LT1631
designator X?, comment Quad 30MHz, 10V/Âµs, Rail-to-Rail Input and Output Precision Operational Amplifier
VALUE2: LT1630; SPICEMODEL: LTC.lib
pins: ?1 IN+, ?2 IN-, ?3 V+, ?4 V-, ?5 OUT

## LT1632
designator X?, comment Dual 45MHz, 45V/Âµs, Rail-to-Rail Input and Output Precision Operational Amplifier
VALUE2: LT1632; SPICEMODEL: LTC.lib
pins: ?1 IN+, ?2 IN-, ?3 V+, ?4 V-, ?5 OUT

## LT1633
designator X?, comment Quad 45MHz, 45V/Âµs, Rail-to-Rail Input and Output Precision Operational Amplifier
VALUE2: LT1633; SPICEMODEL: LTC.lib
pins: ?1 IN+, ?2 IN-, ?3 V+, ?4 V-, ?5 OUT

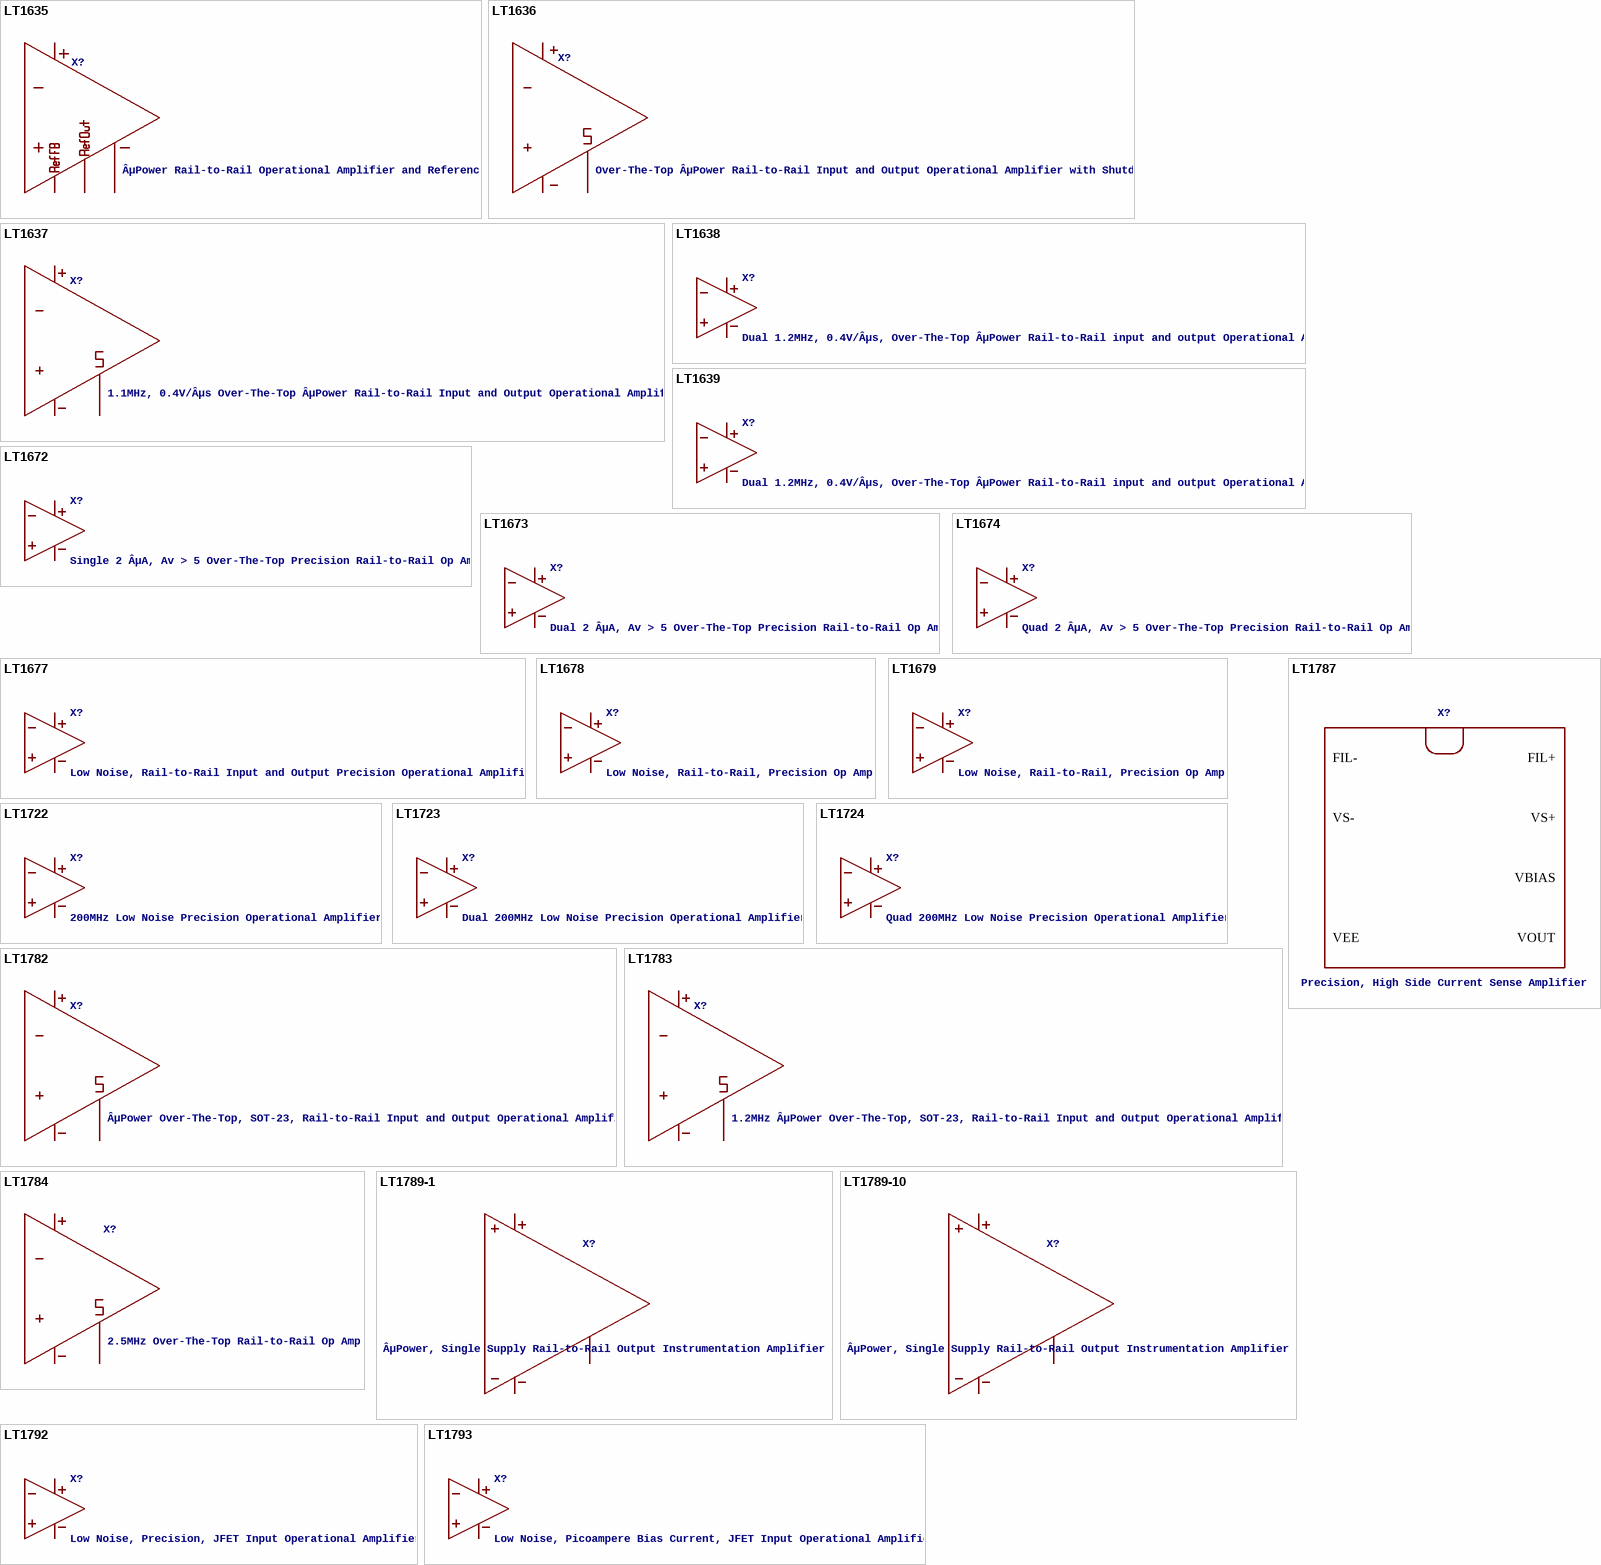
[diagram p6: symbols LT1635 to LT1793]

## LT1635
designator X?, comment ÂµPower Rail-to-Rail Operational Amplifier and Reference
VALUE2: LT1635; SPICEMODEL: LTC.lib
pins: ?1 IN+, ?2 IN-, ?3 V+, ?4 V-, ?5 OUT, ?6 REFOUT, ?7 REFFB

## LT1636
designator X?, comment Over-The-Top ÂµPower Rail-to-Rail Input and Output Operational Amplifier with Shutdown
VALUE2: LT1636; SPICEMODEL: LTC.lib
pins: ?1 IN+, ?2 IN-, ?3 V+, ?4 V-, ?5 OUT, ?6 SHDN

## LT1637
designator X?, comment 1.1MHz, 0.4V/Âµs Over-The-Top ÂµPower Rail-to-Rail Input and Output Operational Amplifier
VALUE2: LT1637; SPICEMODEL: LTC.lib
pins: ?1 IN+, ?2 IN-, ?3 V+, ?4 V-, ?5 OUT, ?6 SHDN

## LT1638
designator X?, comment Dual 1.2MHz, 0.4V/Âµs, Over-The-Top ÂµPower Rail-to-Rail input and output Operational Amplifier
VALUE2: LT1638; SPICEMODEL: LTC.lib
pins: ?1 IN+, ?2 IN-, ?3 V+, ?4 V-, ?5 OUT

## LT1639
designator X?, comment Dual 1.2MHz, 0.4V/Âµs, Over-The-Top ÂµPower Rail-to-Rail input and output Operational Amplifier
VALUE2: LT1638; SPICEMODEL: LTC.lib
pins: ?1 IN+, ?2 IN-, ?3 V+, ?4 V-, ?5 OUT

## LT1672
designator X?, comment Single 2 ÂµA, Av > 5 Over-The-Top Precision Rail-to-Rail Op Amp
VALUE2: LT1672; SPICEMODEL: LTC2.LIB
pins: ?1 IN+, ?2 IN-, ?3 OUT, ?4 VCC, ?5 VEE

## LT1673
designator X?, comment Dual 2 ÂµA, Av > 5 Over-The-Top Precision Rail-to-Rail Op Amp
VALUE2: LT1672; SPICEMODEL: LTC2.LIB
pins: ?1 IN+, ?2 IN-, ?3 OUT, ?4 VCC, ?5 VEE

## LT1674
designator X?, comment Quad 2 ÂµA, Av > 5 Over-The-Top Precision Rail-to-Rail Op Amp
VALUE2: LT1672; SPICEMODEL: LTC2.LIB
pins: ?1 IN+, ?2 IN-, ?3 OUT, ?4 VCC, ?5 VEE

## LT1677
designator X?, comment Low Noise, Rail-to-Rail Input and Output Precision Operational Amplifier
VALUE2: LT1677; SPICEMODEL: LTC.lib
pins: ?1 IN+, ?2 IN-, ?3 V+, ?4 V-, ?5 OUT

## LT1678
designator X?, comment Low Noise, Rail-to-Rail, Precision Op Amp
VALUE2: LT1678; SPICEMODEL: LTC2.LIB
pins: ?1 IN+, ?2 IN-, ?3 VCC, ?4 VEE, ?5 OUT

## LT1679
designator X?, comment Low Noise, Rail-to-Rail, Precision Op Amp
VALUE2: LT1678; SPICEMODEL: LTC2.LIB
pins: ?1 IN+, ?2 IN-, ?3 OUT, ?4 VCC, ?5 VEE

## LT1722
designator X?, comment 200MHz Low Noise Precision Operational Amplifier
VALUE2: LT1722; SPICEMODEL: LTC.lib
pins: ?1 IN+, ?2 IN-, ?3 V+, ?4 V-, ?5 OUT

## LT1723
designator X?, comment Dual 200MHz Low Noise Precision Operational Amplifier
VALUE2: LT1722; SPICEMODEL: LTC.lib
pins: ?1 IN+, ?2 IN-, ?3 V+, ?4 V-, ?5 OUT

## LT1724
designator X?, comment Quad 200MHz Low Noise Precision Operational Amplifier
VALUE2: LT1722; SPICEMODEL: LTC.lib
pins: ?1 IN+, ?2 IN-, ?3 V+, ?4 V-, ?5 OUT

## LT1782
designator X?, comment ÂµPower Over-The-Top, SOT-23, Rail-to-Rail Input and Output Operational Amplifier
VALUE2: LT1782; SPICEMODEL: LTC.lib
pins: ?1 IN+, ?2 IN-, ?3 V+, ?4 V-, ?5 OUT, ?6 SHDN

## LT1783
designator X?, comment 1.2MHz ÂµPower Over-The-Top, SOT-23, Rail-to-Rail Input and Output Operational Amplifier
VALUE2: LT1783; SPICEMODEL: LTC.lib
pins: ?1 IN+, ?2 IN-, ?3 V+, ?4 V-, ?5 OUT, ?6 SHDN

## LT1784
designator X?, comment 2.5MHz Over-The-Top Rail-to-Rail Op Amp
VALUE2: LT1784; SPICEMODEL: LTC2.LIB
pins: ?1 IN+, ?2 IN-, ?3 OUT, ?4 VCC, ?5 VEE, ?6 SHDN

## LT1787
designator X?, comment Precision, High Side Current Sense Amplifier
VALUE2: LT1787; SPICEMODEL: LTC.lib
pins: ?1 FIL-, ?2 VS-, ?3 VEE, ?4 VOUT, ?5 VBIAS, ?6 VS+, ?7 FIL+

## LT1789-1
designator X?, comment ÂµPower, Single Supply Rail-to-Rail Output Instrumentation Amplifier
VALUE2: LT1789-1; SPICEMODEL: LTC3.lib
pins: ?1 RG1, ?2 IN-, ?3 IN+, ?4 VEE, ?5 REF, ?6 OUT, ?7 VCC, ?8 RG2

## LT1789-10
designator X?, comment ÂµPower, Single Supply Rail-to-Rail Output Instrumentation Amplifier
VALUE2: LT1789-10; SPICEMODEL: LTC3.lib
pins: ?1 RG1, ?2 IN-, ?3 IN+, ?4 VEE, ?5 REF, ?6 OUT, ?7 VCC, ?8 RG2

## LT1792
designator X?, comment Low Noise, Precision, JFET Input Operational Amplifier
VALUE2: LT1792; SPICEMODEL: LTC.lib
pins: ?1 IN+, ?2 IN-, ?3 V+, ?4 V-, ?5 OUT

## LT1793
designator X?, comment Low Noise, Picoampere Bias Current, JFET Input Operational Amplifier
VALUE2: LT1793; SPICEMODEL: LTC.lib
pins: ?1 IN+, ?2 IN-, ?3 V+, ?4 V-, ?5 OUT

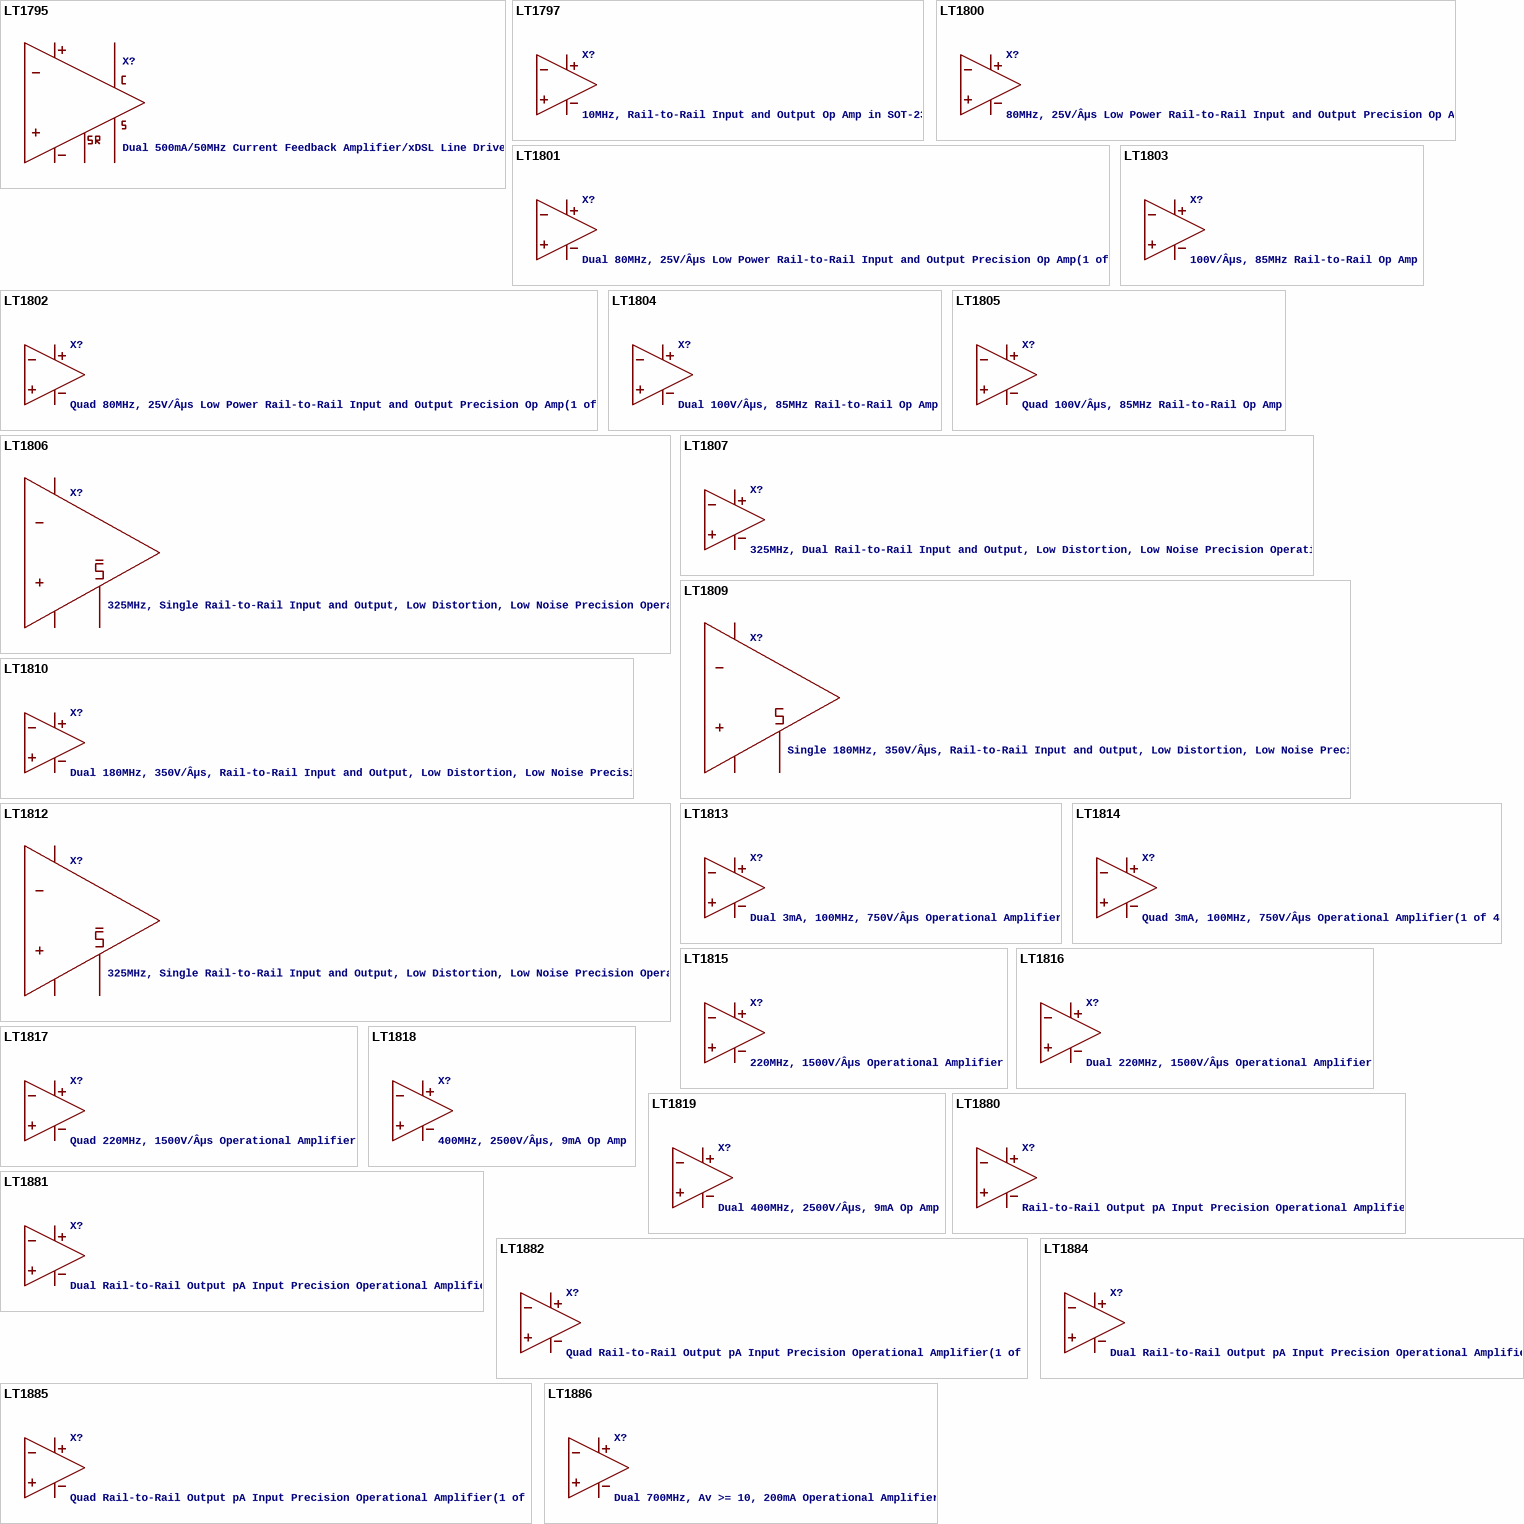
[diagram p7: symbols LT1795 to LT1886]

## LT1795
designator X?, comment Dual 500mA/50MHz Current Feedback Amplifier/xDSL Line Driver
VALUE2: LT1795; SPICEMODEL: LTC.lib
pins: ?1 IN+, ?2 IN-, ?3 V+, ?4 V-, ?5 OUT, ?6 SHDNREF, ?7 SHDN, ?8 COMP

## LT1797
designator X?, comment 10MHz, Rail-to-Rail Input and Output Op Amp in SOT-23
VALUE2: LT1797; SPICEMODEL: LTC.lib
pins: ?1 IN+, ?2 IN-, ?3 V+, ?4 V-, ?5 OUT

## LT1800
designator X?, comment 80MHz, 25V/Âµs Low Power Rail-to-Rail Input and Output Precision Op Amp
VALUE2: LT1800; SPICEMODEL: LTC.lib
pins: ?1 IN+, ?2 IN-, ?3 V+, ?4 V-, ?5 OUT

## LT1801
designator X?, comment Dual 80MHz, 25V/Âµs Low Power Rail-to-Rail Input and Output Precision Op Amp(1 of 2)
VALUE2: LT1800; SPICEMODEL: LTC.lib
pins: ?1 IN+, ?2 IN-, ?3 V+, ?4 V-, ?5 OUT

## LT1802
designator X?, comment Quad 80MHz, 25V/Âµs Low Power Rail-to-Rail Input and Output Precision Op Amp(1 of 4)
VALUE2: LT1800; SPICEMODEL: LTC.lib
pins: ?1 IN+, ?2 IN-, ?3 V+, ?4 V-, ?5 OUT

## LT1803
designator X?, comment 100V/Âµs, 85MHz Rail-to-Rail Op Amp
VALUE2: LT1803; SPICEMODEL: LTC2.LIB
pins: ?1 IN+, ?2 IN-, ?3 VCC, ?4 VEE, ?5 OUT

## LT1804
designator X?, comment Dual 100V/Âµs, 85MHz Rail-to-Rail Op Amp
VALUE2: LT1803; SPICEMODEL: LTC2.LIB
pins: ?1 IN+, ?2 IN-, ?3 OUT, ?4 VCC, ?5 VEE

## LT1805
designator X?, comment Quad 100V/Âµs, 85MHz Rail-to-Rail Op Amp
VALUE2: LT1803; SPICEMODEL: LTC2.LIB
pins: ?1 IN+, ?2 IN-, ?3 OUT, ?4 VCC, ?5 VEE

## LT1806
designator X?, comment 325MHz, Single Rail-to-Rail Input and Output, Low Distortion, Low Noise Precision Operational Amplifier
VALUE2: LT1806; SPICEMODEL: LTC.lib
pins: ?1 IN+, ?2 IN-, ?3 V+, ?4 V-, ?5 OUT, ?6 SHDN

## LT1807
designator X?, comment 325MHz, Dual Rail-to-Rail Input and Output, Low Distortion, Low Noise Precision Operational Amplifier
VALUE2: LT1807; SPICEMODEL: LTC.lib
pins: ?1 IN+, ?2 IN-, ?3 V+, ?4 V-, ?5 OUT

## LT1809
designator X?, comment Single 180MHz, 350V/Âµs, Rail-to-Rail Input and Output, Low Distortion, Low Noise Precision Operational Amplifier
VALUE2: LT1809; SPICEMODEL: LTC.lib
pins: ?1 IN+, ?2 IN-, ?3 V+, ?4 V-, ?5 OUT, ?6 SHDN

## LT1810
designator X?, comment Dual 180MHz, 350V/Âµs, Rail-to-Rail Input and Output, Low Distortion, Low Noise Precision Operational Amplifier
VALUE2: LT1810; SPICEMODEL: LTC.lib
pins: ?1 IN+, ?2 IN-, ?3 V+, ?4 V-, ?5 OUT

## LT1812
designator X?, comment 325MHz, Single Rail-to-Rail Input and Output, Low Distortion, Low Noise Precision Operational Amplifier
VALUE2: LT1812; SPICEMODEL: LTC.lib
pins: ?1 IN+, ?2 IN-, ?3 V+, ?4 V-, ?5 OUT, ?6 SHDN

## LT1813
designator X?, comment Dual 3mA, 100MHz, 750V/Âµs Operational Amplifier
VALUE2: LT1813; SPICEMODEL: LTC.lib
pins: ?1 IN+, ?2 IN-, ?3 V+, ?4 V-, ?5 OUT

## LT1814
designator X?, comment Quad 3mA, 100MHz, 750V/Âµs Operational Amplifier(1 of 4)
VALUE2: LT1813; SPICEMODEL: LTC.lib
pins: ?1 IN+, ?2 IN-, ?3 V+, ?4 V-, ?5 OUT

## LT1815
designator X?, comment 220MHz, 1500V/Âµs Operational Amplifier
VALUE2: LT1815; SPICEMODEL: LTC2.LIB
pins: ?1 IN+, ?2 IN-, ?3 VCC, ?4 VEE, ?5 OUT

## LT1816
designator X?, comment Dual 220MHz, 1500V/Âµs Operational Amplifier
VALUE2: LT1815; SPICEMODEL: LTC2.LIB
pins: ?1 IN+, ?2 IN-, ?3 OUT, ?4 VCC, ?5 VEE

## LT1817
designator X?, comment Quad 220MHz, 1500V/Âµs Operational Amplifier
VALUE2: LT1815; SPICEMODEL: LTC2.LIB
pins: ?1 IN+, ?2 IN-, ?3 OUT, ?4 VCC, ?5 VEE

## LT1818
designator X?, comment 400MHz, 2500V/Âµs, 9mA Op Amp
VALUE2: LT1818; SPICEMODEL: LTC2.LIB
pins: ?1 IN+, ?2 IN-, ?3 VCC, ?4 VEE, ?5 OUT

## LT1819
designator X?, comment Dual 400MHz, 2500V/Âµs, 9mA Op Amp
VALUE2: LT1818; SPICEMODEL: LTC2.LIB
pins: ?1 IN+, ?2 IN-, ?3 OUT, ?4 VCC, ?5 VEE

## LT1880
designator X?, comment Rail-to-Rail Output pA Input Precision Operational Amplifier
VALUE2: LT1880; SPICEMODEL: LTC.lib
pins: ?1 IN+, ?2 IN-, ?3 V+, ?4 V-, ?5 OUT

## LT1881
designator X?, comment Dual Rail-to-Rail Output pA Input Precision Operational Amplifier
VALUE2: LT1881; SPICEMODEL: LTC.lib
pins: ?1 IN+, ?2 IN-, ?3 V+, ?4 V-, ?5 OUT

## LT1882
designator X?, comment Quad Rail-to-Rail Output pA Input Precision Operational Amplifier(1 of 4)
VALUE2: LT1881; SPICEMODEL: LTC.lib
pins: ?1 IN+, ?2 IN-, ?3 V+, ?4 V-, ?5 OUT

## LT1884
designator X?, comment Dual Rail-to-Rail Output pA Input Precision Operational Amplifier
VALUE2: LT1884; SPICEMODEL: LTC.lib
pins: ?1 IN+, ?2 IN-, ?3 V+, ?4 V-, ?5 OUT

## LT1885
designator X?, comment Quad Rail-to-Rail Output pA Input Precision Operational Amplifier(1 of 4)
VALUE2: LT1884; SPICEMODEL: LTC.lib
pins: ?1 IN+, ?2 IN-, ?3 V+, ?4 V-, ?5 OUT

## LT1886
designator X?, comment Dual 700MHz, Av >= 10, 200mA Operational Amplifier
VALUE2: LT1886; SPICEMODEL: LTC.lib
pins: ?1 IN+, ?2 IN-, ?3 V+, ?4 V-, ?5 OUT

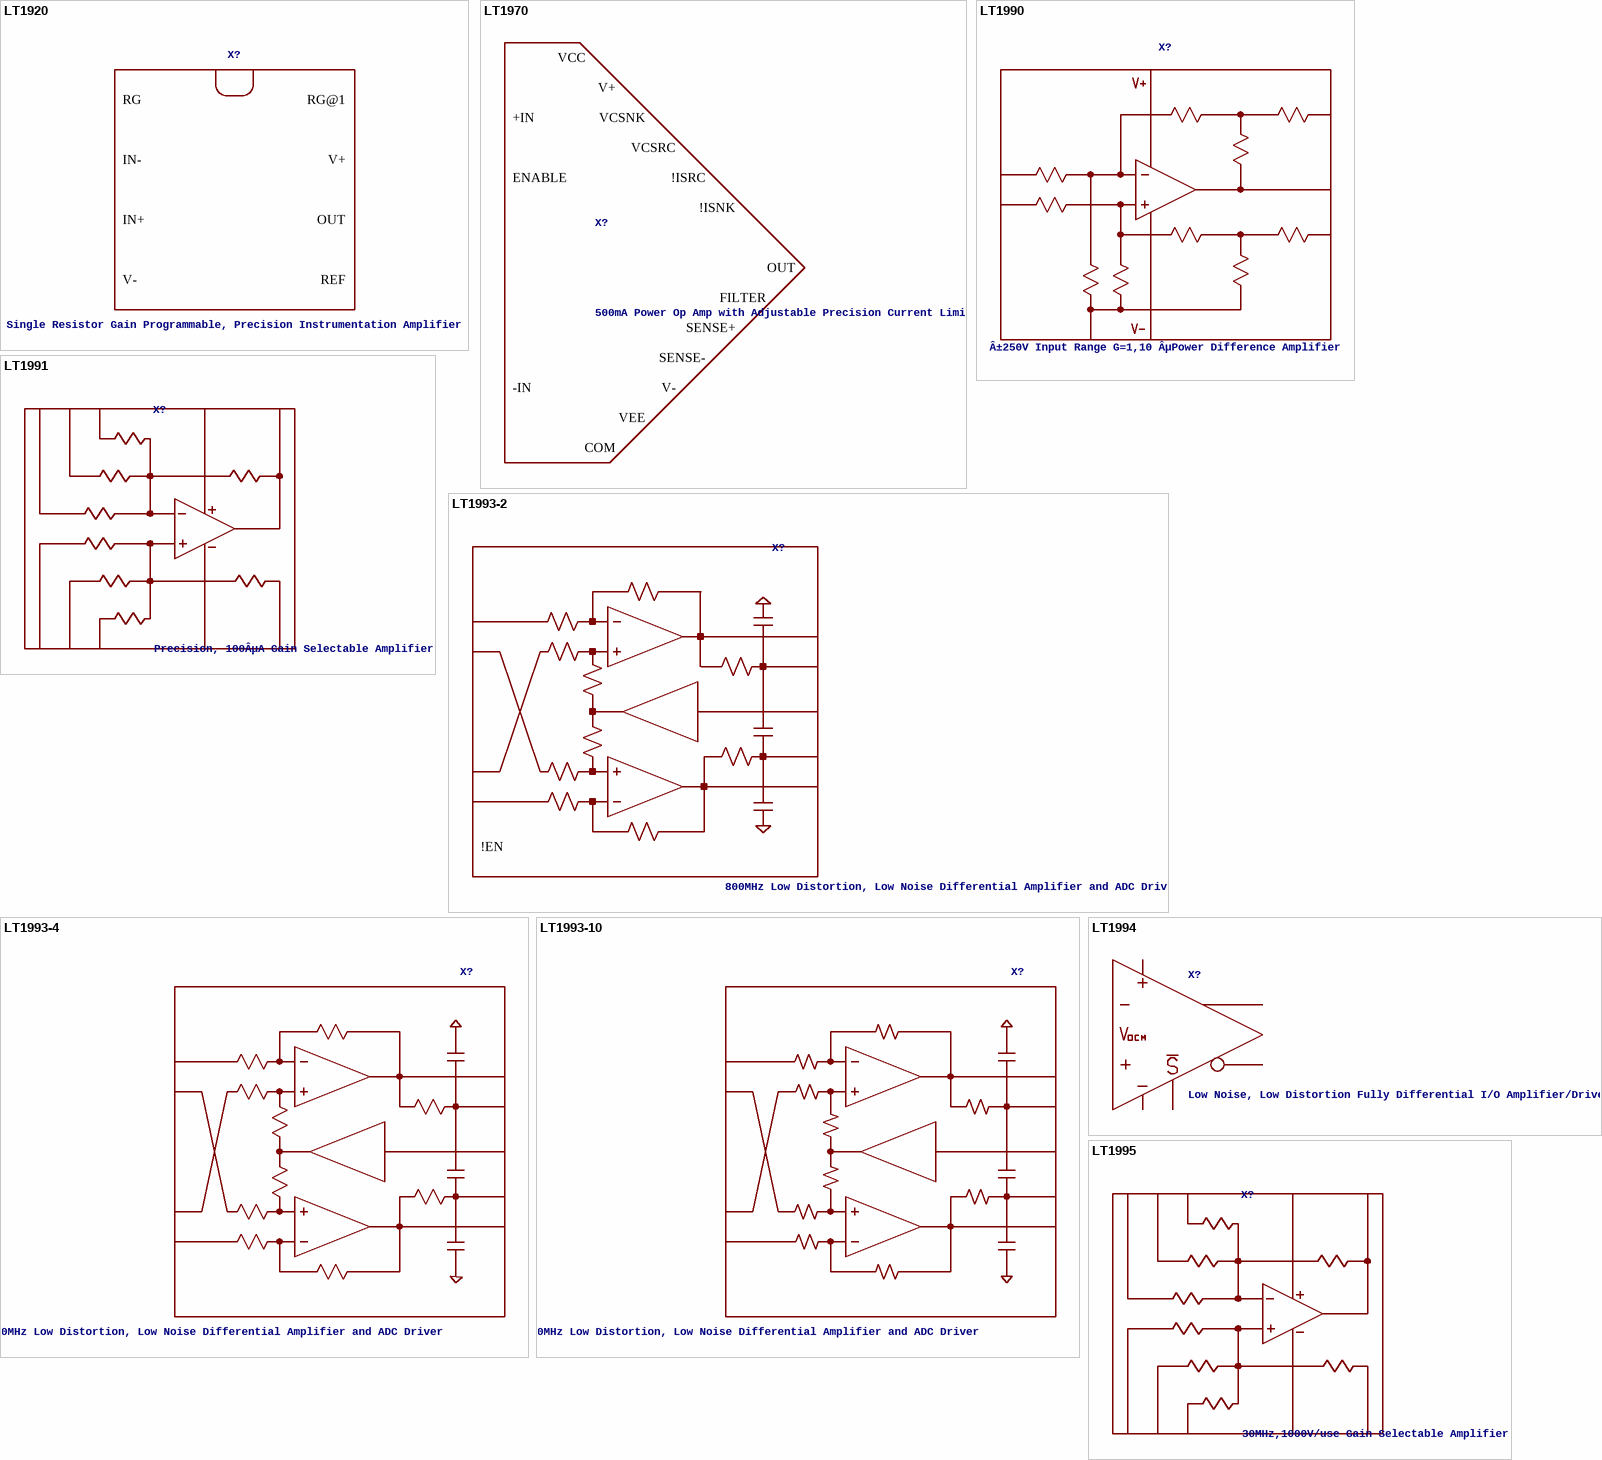
[diagram p8: symbols LT1920 to LT1995]

## LT1920
designator X?, comment Single Resistor Gain Programmable, Precision Instrumentation Amplifier
VALUE2: LT1920; SPICEMODEL: LTC.lib
pins: ?1 RG, ?2 IN-, ?3 IN+, ?4 V-, ?5 REF, ?6 OUT, ?7 V+, ?8 RG@1

## LT1970
designator X?, comment 500mA Power Op Amp with Adjustable Precision Current Limit
VALUE2: LT1970; SPICEMODEL: LTC1.lib
pins: ?1 VEE, ?2 V-, ?3 OUT, ?4 SENSE+, ?5 FILTER, ?6 SENSE-, ?7 VCC, ?8 -IN, ?9 +IN, ?10 VCSNK, ?11 VCSRC, ?12 COM, ?13 ENABLE, ?14 !ISRC, ?15 !ISNK, ?16 V+

## LT1990
designator X?, comment Â±250V Input Range G=1,10 ÂµPower Difference Amplifier
VALUE2: LT1990; SPICEMODEL: LTC3.lib
pins: ?1 REF, ?2 IN-, ?3 IN+, ?4 VEE, ?5 GAIN2, ?6 OUT, ?7 VCC, ?8 GAIN1

## LT1991
designator X?, comment Precision, 100ÂµA Gain Selectable Amplifier
VALUE2: LT1991; SPICEMODEL: LTC1.lib
pins: ?1 P1, ?2 P3, ?3 P9, ?4 VEE, ?5 REF, ?6 OUT, ?7 VCC, ?8 M9, ?9 M3, ?10 M1

## LT1993-2
designator X?, comment 800MHz Low Distortion, Low Noise Differential Amplifier and ADC Driver
VALUE2: LT1993-2; SPICEMODEL: LTC3.LIB
pins: ?1 VCCC, ?2 VOCM, ?3 VCCA, ?4 VEEA, ?5 +OUT, ?6 +OUTFILT, ?7 -OUTFILT, ?8 -OUT, ?9 VEEB, ?10 VCCB, ?11 !EN, ?12 VEEC, ?13 -INB, ?14 -INA, ?15 +INB, ?16 +INA

## LT1993-4
designator X?, comment 900MHz Low Distortion, Low Noise Differential Amplifier and ADC Driver
VALUE2: LT1993-4; SPICEMODEL: LTC3.LIB
pins: ?1 VCCC, ?2 VOCM, ?3 VCCA, ?4 VEEA, ?5 +OUT, ?6 +OUTFILT, ?7 -OUTFILT, ?8 -OUT, ?9 VEEB, ?10 VCCB, ?11 !EN, ?12 VEEC, ?13 -INB, ?14 -INA, ?15 +INB, ?16 +INA

## LT1993-10
designator X?, comment 700MHz Low Distortion, Low Noise Differential Amplifier and ADC Driver
VALUE2: LT1993-10; SPICEMODEL: LTC3.LIB
pins: ?1 VCCC, ?2 VOCM, ?3 VCCA, ?4 VEEA, ?5 +OUT, ?6 +OUTFILT, ?7 -OUTFILT, ?8 -OUT, ?9 VEEB, ?10 VCCB, ?11 !EN, ?12 VEEC, ?13 -INB, ?14 -INA, ?15 +INB, ?16 +INA

## LT1994
designator X?, comment Low Noise, Low Distortion Fully Differential I/O Amplifier/Driver
VALUE2: LT1994; SPICEMODEL: LTC3.lib
pins: ?1 IN-, ?2 VOCM, ?3 V+, ?4 OUT+, ?5 OUT-, ?6 V-, ?7 SHDN, ?8 IN+

## LT1995
designator X?, comment 30MHz,1000V/use Gain Selectable Amplifier
VALUE2: LT1995; SPICEMODEL: LTC7.lib
pins: ?1 P1, ?2 P2, ?3 P4, ?4 VEE, ?5 REF, ?6 OUT, ?7 VCC, ?8 M4, ?9 M2, ?10 M1

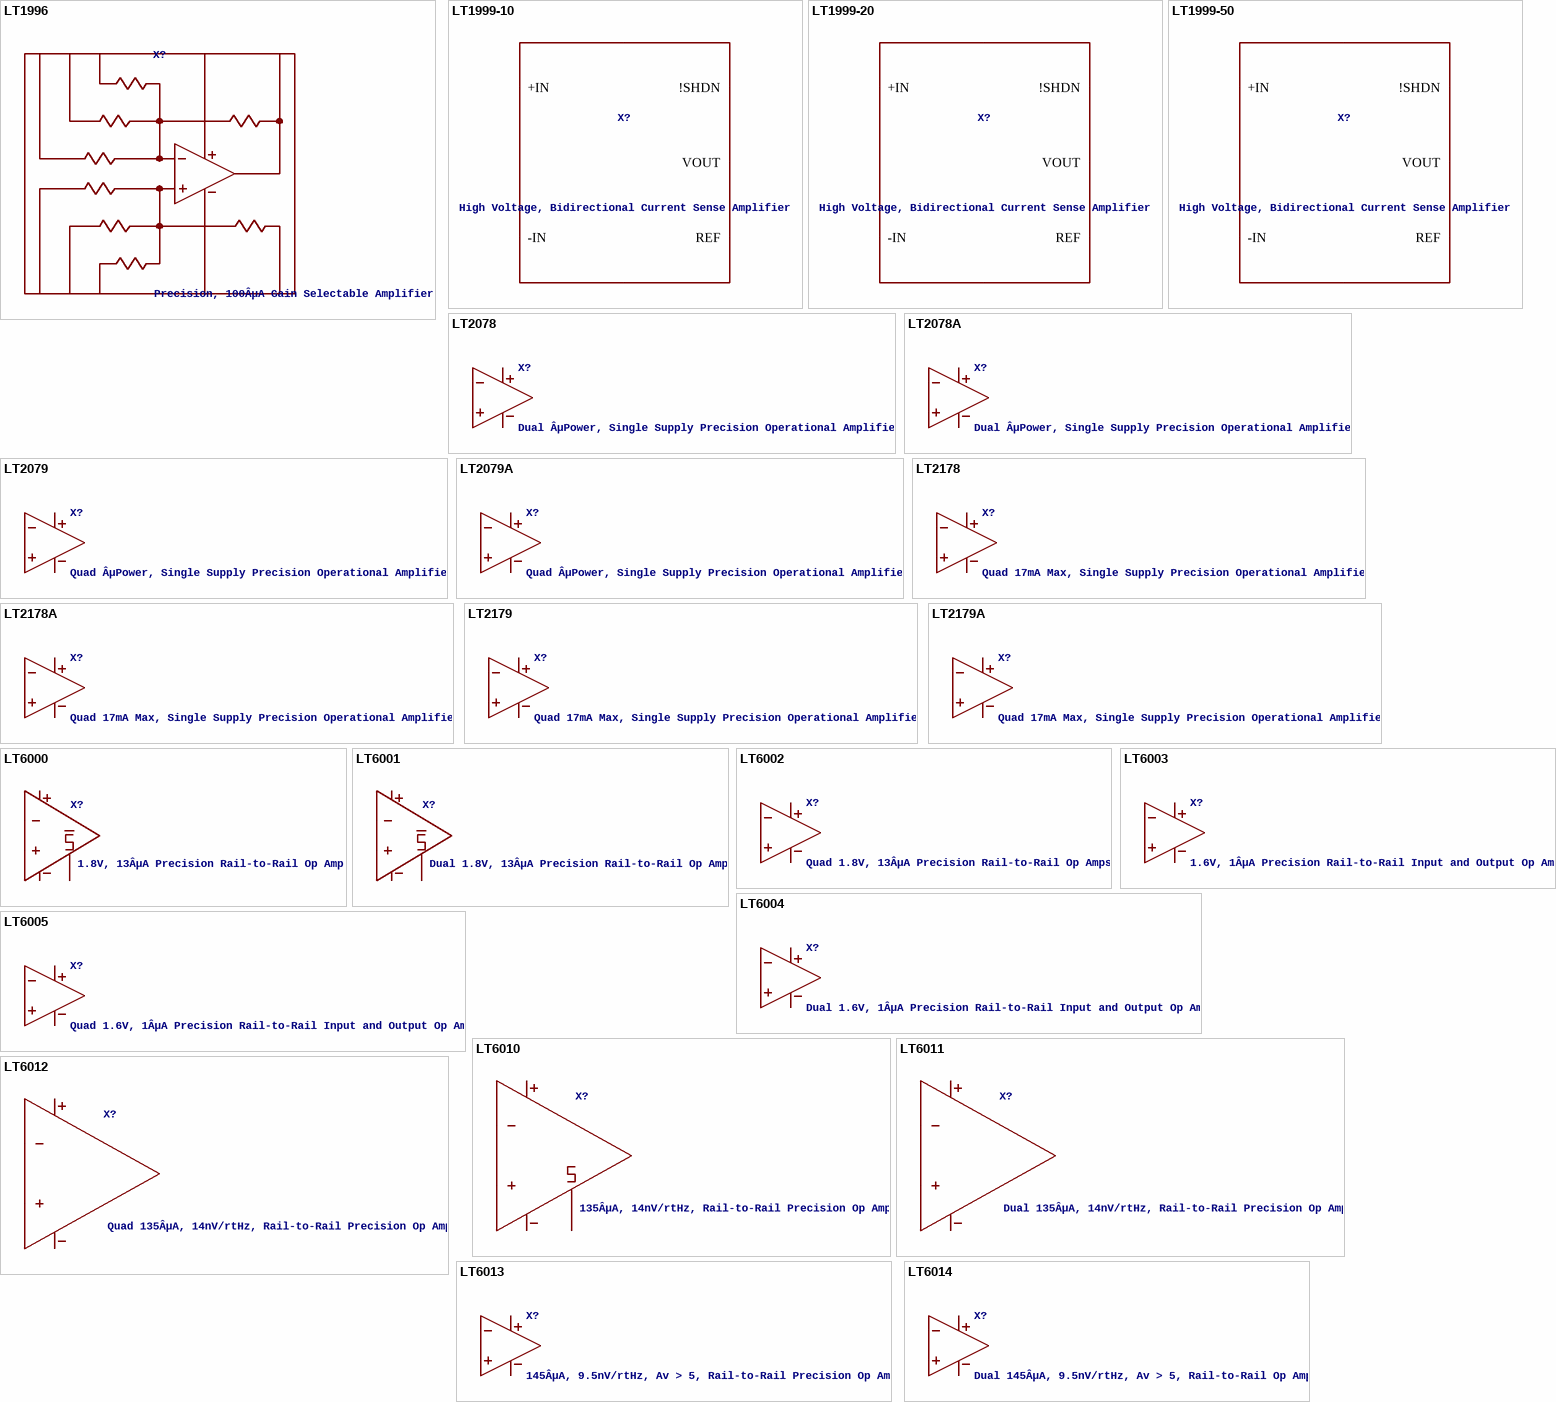
[diagram p9: symbols LT1996 to LT6014]

## LT1996
designator X?, comment Precision, 100ÂµA Gain Selectable Amplifier
VALUE2: LT1996; SPICEMODEL: LTC1.lib
pins: ?1 P9, ?2 P27, ?3 P81, ?4 VEE, ?5 REF, ?6 OUT, ?7 VCC, ?8 M81, ?9 M27, ?10 M9

## LT1999-10
designator X?, comment High Voltage, Bidirectional Current Sense Amplifier
VALUE2: LT1999-x Gain=10; SPICEMODEL: LTC6.lib
pins: ?1 V+, ?2 +IN, ?3 -IN, ?4 GND, ?5 REF, ?6 VOUT, ?7 !SHDN

## LT1999-20
designator X?, comment High Voltage, Bidirectional Current Sense Amplifier
VALUE2: LT1999-x Gain=20; SPICEMODEL: LTC6.lib
pins: ?1 V+, ?2 +IN, ?3 -IN, ?4 GND, ?5 REF, ?6 VOUT, ?7 !SHDN

## LT1999-50
designator X?, comment High Voltage, Bidirectional Current Sense Amplifier
VALUE2: LT1999-x Gain=50; SPICEMODEL: LTC6.lib
pins: ?1 V+, ?2 +IN, ?3 -IN, ?4 GND, ?5 REF, ?6 VOUT, ?7 !SHDN

## LT2078
designator X?, comment Dual ÂµPower, Single Supply Precision Operational Amplifier
VALUE2: LT1078; SPICEMODEL: LTC.lib
pins: ?1 IN+, ?2 IN-, ?3 V+, ?4 V-, ?5 OUT

## LT2078A
designator X?, comment Dual ÂµPower, Single Supply Precision Operational Amplifier
VALUE2: LT1078; SPICEMODEL: LTC.lib
pins: ?1 IN+, ?2 IN-, ?3 V+, ?4 V-, ?5 OUT

## LT2079
designator X?, comment Quad ÂµPower, Single Supply Precision Operational Amplifier
VALUE2: LT1078; SPICEMODEL: LTC.lib
pins: ?1 IN+, ?2 IN-, ?3 V+, ?4 V-, ?5 OUT

## LT2079A
designator X?, comment Quad ÂµPower, Single Supply Precision Operational Amplifier
VALUE2: LT1078; SPICEMODEL: LTC.lib
pins: ?1 IN+, ?2 IN-, ?3 V+, ?4 V-, ?5 OUT

## LT2178
designator X?, comment Quad 17mA Max, Single Supply Precision Operational Amplifier
VALUE2: LT1178; SPICEMODEL: LTC.lib
pins: ?1 IN+, ?2 IN-, ?3 V+, ?4 V-, ?5 OUT

## LT2178A
designator X?, comment Quad 17mA Max, Single Supply Precision Operational Amplifier
VALUE2: LT1178A; SPICEMODEL: LTC.lib
pins: ?1 IN+, ?2 IN-, ?3 V+, ?4 V-, ?5 OUT

## LT2179
designator X?, comment Quad 17mA Max, Single Supply Precision Operational Amplifier
VALUE2: LT1178; SPICEMODEL: LTC.lib
pins: ?1 IN+, ?2 IN-, ?3 V+, ?4 V-, ?5 OUT

## LT2179A
designator X?, comment Quad 17mA Max, Single Supply Precision Operational Amplifier
VALUE2: LT1178A; SPICEMODEL: LTC.lib
pins: ?1 IN+, ?2 IN-, ?3 V+, ?4 V-, ?5 OUT

## LT6000
designator X?, comment 1.8V, 13ÂµA Precision Rail-to-Rail Op Amp
VALUE2: LT6000; SPICEMODEL: LTC5.lib
pins: ?1 IN+, ?2 IN-, ?3 VCC, ?4 VEE, ?5 OUT, ?6 SHDN_L

## LT6001
designator X?, comment Dual 1.8V, 13ÂµA Precision Rail-to-Rail Op Amp
VALUE2: LT6000; SPICEMODEL: LTC5.lib
pins: ?1 IN+, ?2 IN-, ?3 VCC, ?4 VEE, ?5 OUT, ?6 SHDN_L

## LT6002
designator X?, comment Quad 1.8V, 13ÂµA Precision Rail-to-Rail Op Amps
VALUE2: LT6002; SPICEMODEL: LTC5.lib
pins: ?1 IN+, ?2 IN-, ?3 VCC, ?4 VEE, ?5 OUT

## LT6003
designator X?, comment 1.6V, 1ÂµA Precision Rail-to-Rail Input and Output Op Amp
VALUE2: LT6003; SPICEMODEL: LTC5.lib
pins: ?1 IN+, ?2 IN-, ?3 VCC, ?4 VEE, ?5 OUT

## LT6004
designator X?, comment Dual 1.6V, 1ÂµA Precision Rail-to-Rail Input and Output Op Amp
VALUE2: LT6003; SPICEMODEL: LTC5.lib
pins: ?1 IN+, ?2 IN-, ?3 VCC, ?4 VEE, ?5 OUT

## LT6005
designator X?, comment Quad 1.6V, 1ÂµA Precision Rail-to-Rail Input and Output Op Amp
VALUE2: LT6003; SPICEMODEL: LTC5.lib
pins: ?1 IN+, ?2 IN-, ?3 VCC, ?4 VEE, ?5 OUT

## LT6010
designator X?, comment 135ÂµA, 14nV/rtHz, Rail-to-Rail Precision Op Amp
VALUE2: LT6010; SPICEMODEL: LTC2.LIB
pins: ?1 IN+, ?2 IN-, ?3 OUT, ?4 VCC, ?5 VEE, ?6 SHDN

## LT6011
designator X?, comment Dual 135ÂµA, 14nV/rtHz, Rail-to-Rail Precision Op Amp
VALUE2: LT6011; SPICEMODEL: LTC2.LIB
pins: ?1 IN+, ?2 IN-, ?3 OUT, ?4 VCC, ?5 VEE

## LT6012
designator X?, comment Quad 135ÂµA, 14nV/rtHz, Rail-to-Rail Precision Op Amp
VALUE2: LT6011; SPICEMODEL: LTC2.LIB
pins: ?1 IN+, ?2 IN-, ?3 OUT, ?4 VCC, ?5 VEE

## LT6013
designator X?, comment 145ÂµA, 9.5nV/rtHz, Av > 5, Rail-to-Rail Precision Op Amp
VALUE2: LT6013; SPICEMODEL: LTC2.LIB
pins: ?1 IN+, ?2 IN-, ?3 VCC, ?4 VEE, ?5 OUT

## LT6014
designator X?, comment Dual 145ÂµA, 9.5nV/rtHz, Av > 5, Rail-to-Rail Op Amp
VALUE2: LT6013; SPICEMODEL: LTC2.LIB
pins: ?1 IN+, ?2 IN-, ?3 VCC, ?4 VEE, ?5 OUT

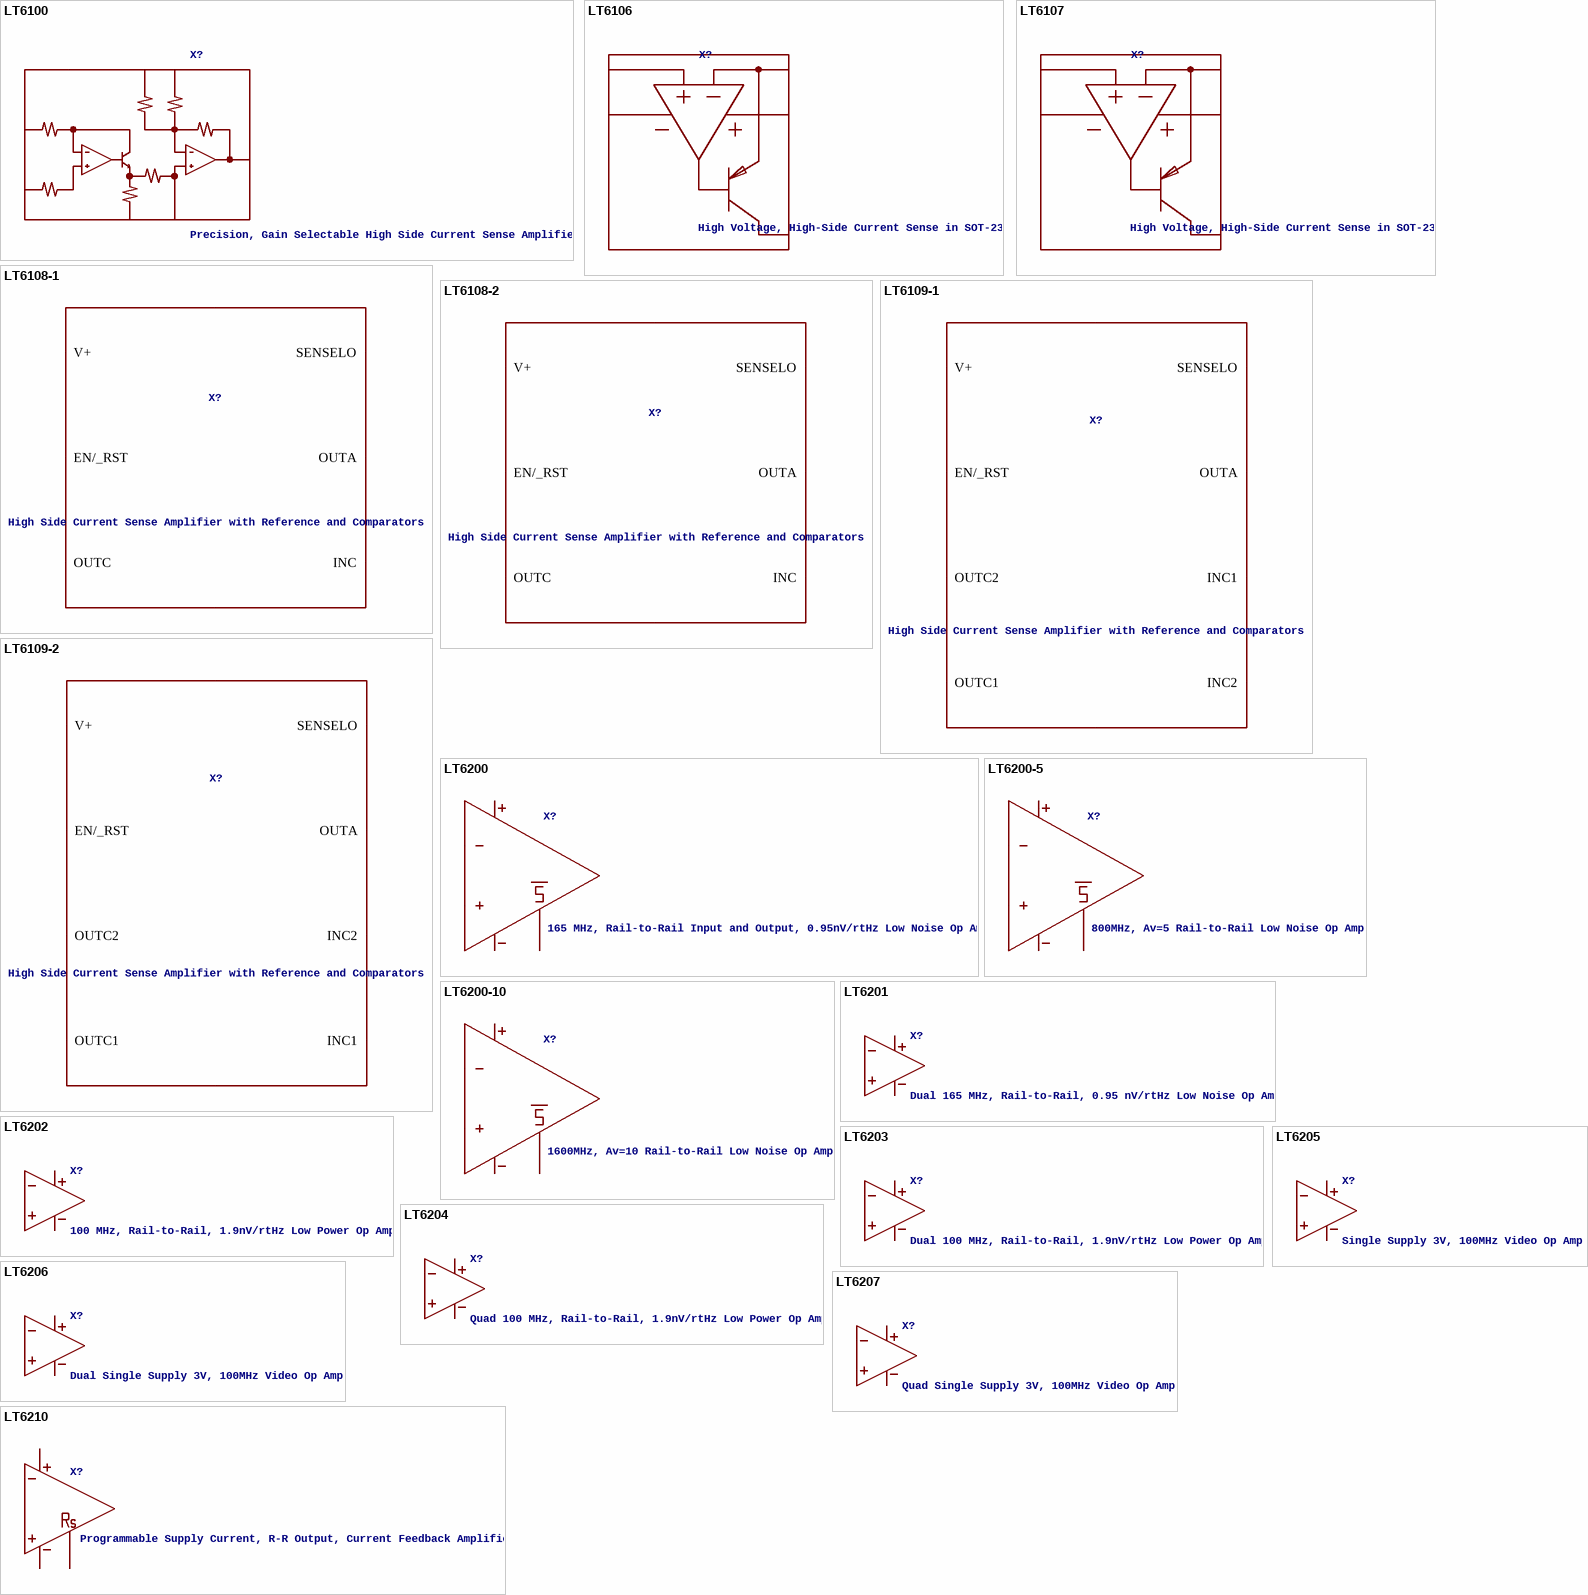
[diagram p10: symbols LT6100 to LT6210]

## LT6100
designator X?, comment Precision, Gain Selectable High Side Current Sense Amplifier
VALUE2: LT6100; SPICEMODEL: LTC3.lib
pins: ?1 VS-, ?2 VCC, ?3 FIL, ?4 VEE, ?5 VOUT, ?6 A2, ?7 A4, ?8 VS+

## LT6106
designator X?, comment High Voltage, High-Side Current Sense in SOT-23
VALUE2: LT6106; SPICEMODEL: LTC7.lib
pins: ?1 OUT, ?2 VEE, ?3 IN-, ?4 IN+, ?5 VCC

## LT6107
designator X?, comment High Voltage, High-Side Current Sense in SOT-23
VALUE2: LT6106; SPICEMODEL: LTC7.lib
pins: ?1 OUT, ?2 VEE, ?3 IN-, ?4 IN+, ?5 VCC

## LT6108-1
designator X?, comment High Side Current Sense Amplifier with Reference and Comparators
VALUE2: LT6108-1; SPICEMODEL: LTC5.lib
pins: ?1 SENSELO, ?2 EN/_RST, ?3 OUTC, ?4 V-, ?5 INC, ?6 OUTA, ?7 V+, ?8 SENSEHI

## LT6108-2
designator X?, comment High Side Current Sense Amplifier with Reference and Comparators
VALUE2: LT6108-2; SPICEMODEL: LTC5.lib
pins: ?1 SENSELO, ?2 EN/_RST, ?3 OUTC, ?4 V-, ?5 INC, ?6 OUTA, ?7 V+, ?8 SENSEHI

## LT6109-1
designator X?, comment High Side Current Sense Amplifier with Reference and Comparators
VALUE2: LT6109-1; SPICEMODEL: LTC5.lib
pins: ?1 SENSELO, ?2 EN/_RST, ?3 OUTC2, ?4 OUTC1, ?5 V-, ?6 INC1, ?7 INC2, ?8 OUTA, ?9 V+, ?10 SENSEHI

## LT6109-2
designator X?, comment High Side Current Sense Amplifier with Reference and Comparators
VALUE2: LT6109-2; SPICEMODEL: LTC5.lib
pins: ?1 SENSELO, ?2 EN/_RST, ?3 OUTC2, ?4 OUTC1, ?5 V-, ?6 INC1, ?7 INC2, ?8 OUTA, ?9 V+, ?10 SENSEHI

## LT6200
designator X?, comment 165 MHz, Rail-to-Rail Input and Output, 0.95nV/rtHz Low Noise Op Amp
VALUE2: LT6200; SPICEMODEL: LTC2.LIB
pins: ?1 IN+, ?2 IN-, ?3 OUT, ?4 VCC, ?5 VEE, ?6 SHDN_L

## LT6200-5
designator X?, comment 800MHz, Av=5 Rail-to-Rail Low Noise Op Amp
footprint S8
pins: 1 SHDN_L, 2 IN-, 3 IN+, 4 VEE, 6 OUT, 7 VCC

## LT6200-10
designator X?, comment 1600MHz, Av=10 Rail-to-Rail Low Noise Op Amp
VALUE2: LT6200-10; SPICEMODEL: LTC2.LIB
pins: ?1 IN+, ?2 IN-, ?3 OUT, ?4 VCC, ?5 VEE, ?6 SHDN_L

## LT6201
designator X?, comment Dual 165 MHz, Rail-to-Rail, 0.95 nV/rtHz Low Noise Op Amp
VALUE2: LT6201; SPICEMODEL: LTC2.LIB
pins: ?1 IN+, ?2 IN-, ?3 VCC, ?4 VEE, ?5 OUT

## LT6202
designator X?, comment 100 MHz, Rail-to-Rail, 1.9nV/rtHz Low Power Op Amp
VALUE2: LT6202; SPICEMODEL: LTC2.LIB
pins: ?1 IN+, ?2 IN-, ?3 VCC, ?4 VEE, ?5 OUT

## LT6203
designator X?, comment Dual 100 MHz, Rail-to-Rail, 1.9nV/rtHz Low Power Op Amp
VALUE2: LT6202; SPICEMODEL: LTC2.LIB
pins: ?1 IN+, ?2 IN-, ?3 OUT, ?4 VCC, ?5 VEE

## LT6204
designator X?, comment Quad 100 MHz, Rail-to-Rail, 1.9nV/rtHz Low Power Op Amp
VALUE2: LT6202; SPICEMODEL: LTC2.LIB
pins: ?1 IN+, ?2 IN-, ?3 OUT, ?4 VCC, ?5 VEE

## LT6205
designator X?, comment Single Supply 3V, 100MHz Video Op Amp
VALUE2: LT6205; SPICEMODEL: LTC2.LIB
pins: ?1 IN+, ?2 IN-, ?3 VCC, ?4 VEE, ?5 OUT

## LT6206
designator X?, comment Dual Single Supply 3V, 100MHz Video Op Amp
VALUE2: LT6205; SPICEMODEL: LTC2.LIB
pins: ?1 IN+, ?2 IN-, ?3 OUT, ?4 VCC, ?5 VEE

## LT6207
designator X?, comment Quad Single Supply 3V, 100MHz Video Op Amp
VALUE2: LT6205; SPICEMODEL: LTC2.LIB
pins: ?1 IN+, ?2 IN-, ?3 OUT, ?4 VCC, ?5 VEE

## LT6210
designator X?, comment Programmable Supply Current, R-R Output, Current Feedback Amplifier
VALUE2: LT6210; SPICEMODEL: LTC4.lib
pins: ?1 IN+, ?2 IN-, ?3 V+, ?4 V-, ?5 OUT, ?6 V-1

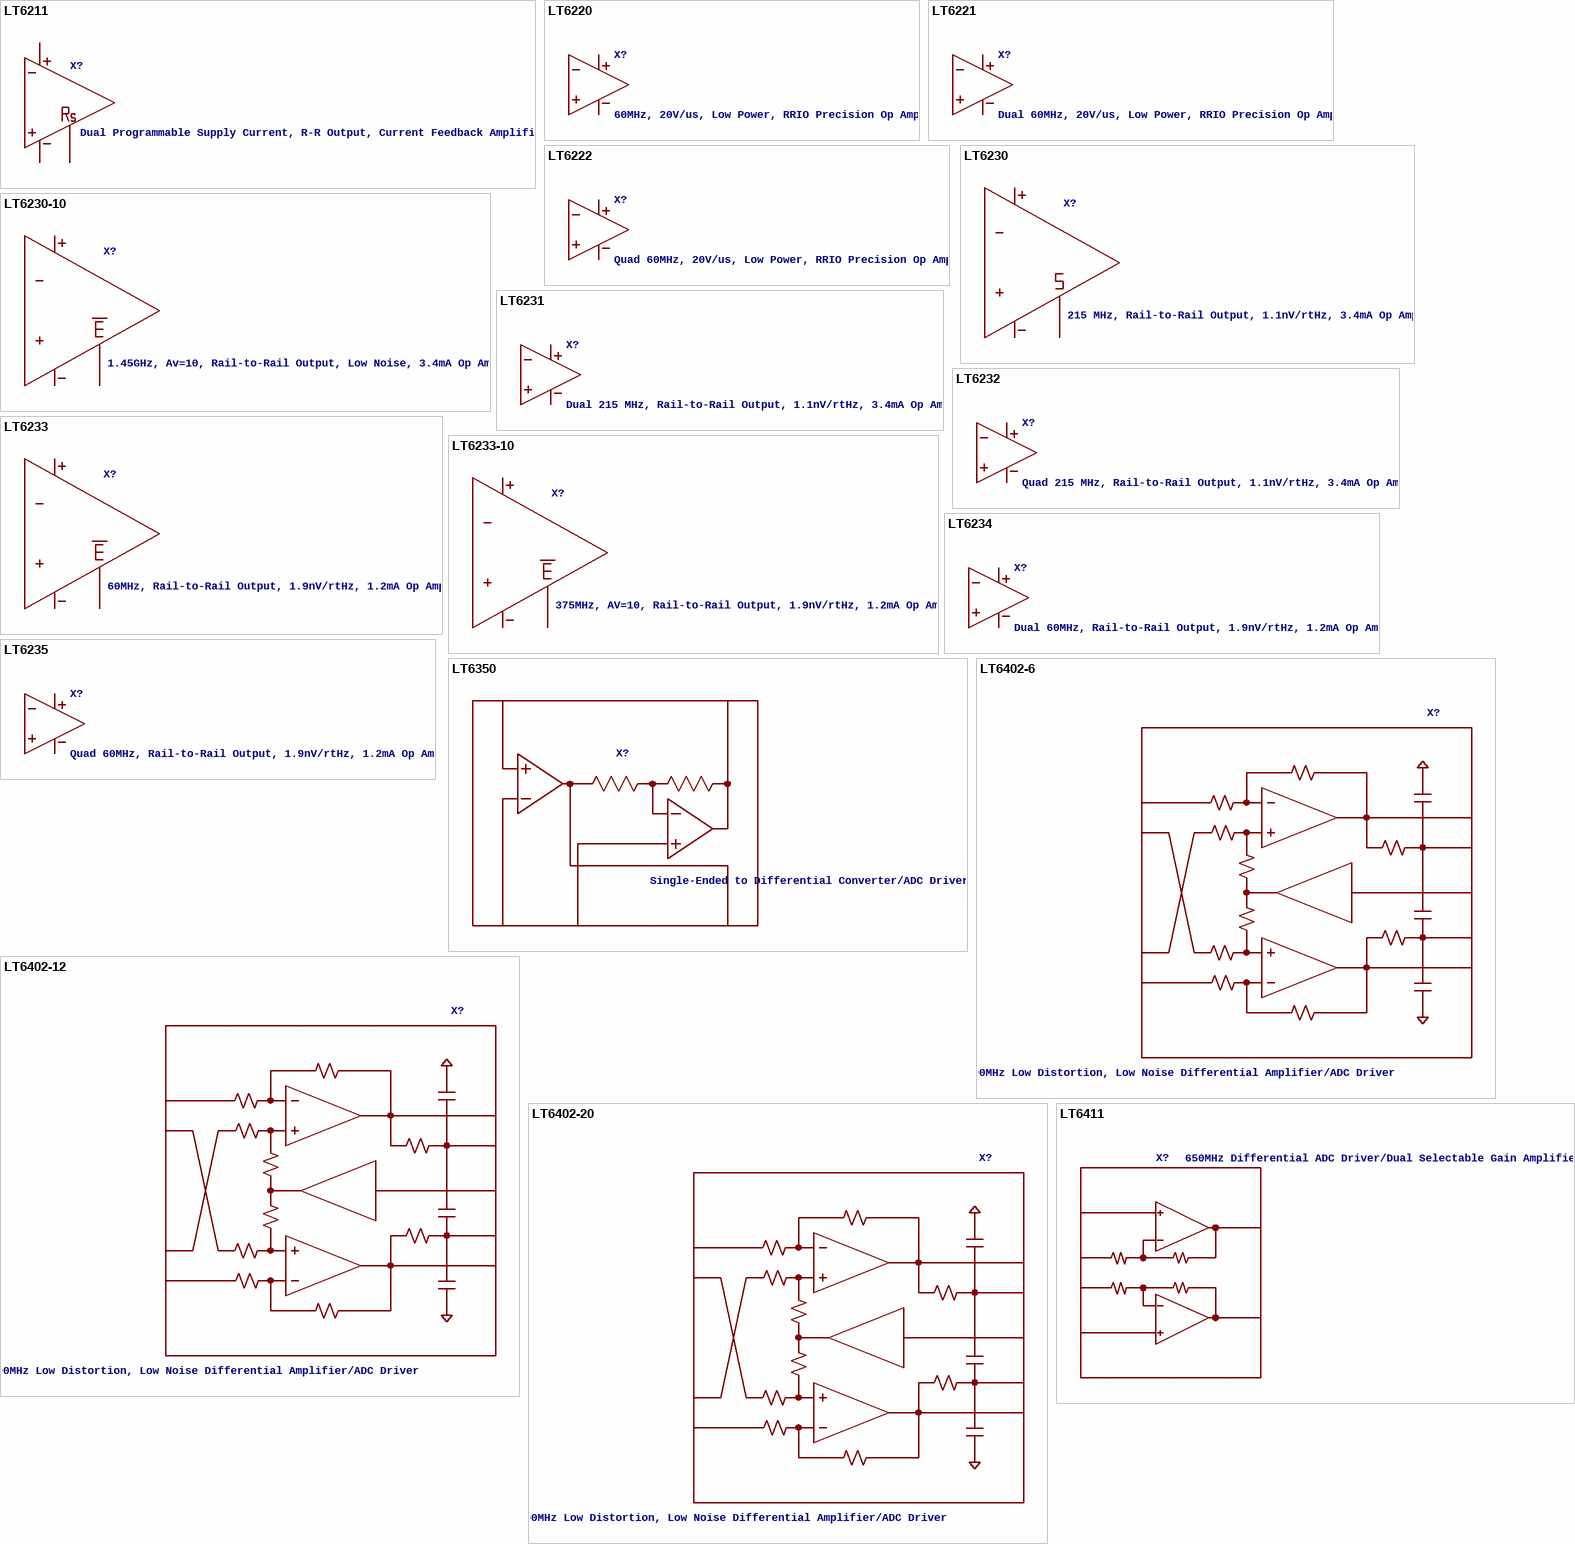
[diagram p11: symbols LT6211 to LT6411]

## LT6211
designator X?, comment Dual Programmable Supply Current, R-R Output, Current Feedback Amplifier
VALUE2: LT6210; SPICEMODEL: LTC4.lib
pins: ?1 IN+, ?2 IN-, ?3 V+, ?4 V-, ?5 OUT, ?6 V-1

## LT6220
designator X?, comment 60MHz, 20V/us, Low Power, RRIO Precision Op Amp
VALUE2: LT6220; SPICEMODEL: LTC4.LIB
pins: ?1 IN+, ?2 IN-, ?3 VCC, ?4 VEE, ?5 OUT

## LT6221
designator X?, comment Dual 60MHz, 20V/us, Low Power, RRIO Precision Op Amp
VALUE2: LT6220; SPICEMODEL: LTC4.LIB
pins: ?1 IN+, ?2 IN-, ?3 VCC, ?4 VEE, ?5 OUT

## LT6222
designator X?, comment Quad 60MHz, 20V/us, Low Power, RRIO Precision Op Amp
VALUE2: LT6220; SPICEMODEL: LTC4.LIB
pins: ?1 IN+, ?2 IN-, ?3 VCC, ?4 VEE, ?5 OUT

## LT6230
designator X?, comment 215 MHz, Rail-to-Rail Output, 1.1nV/rtHz, 3.4mA Op Amp
VALUE2: LT6230; SPICEMODEL: LTC2.LIB
pins: ?1 IN+, ?2 IN-, ?3 OUT, ?4 VCC, ?5 VEE, ?6 SHDN

## LT6230-10
designator X?, comment 1.45GHz, Av=10, Rail-to-Rail Output, Low Noise, 3.4mA Op Amp
VALUE2: LT6230-10; SPICEMODEL: LTC2.LIB
pins: ?1 IN+, ?2 IN-, ?3 OUT, ?4 VCC, ?5 VEE, ?6 EN_L

## LT6231
designator X?, comment Dual 215 MHz, Rail-to-Rail Output, 1.1nV/rtHz, 3.4mA Op Amp
VALUE2: LT6231; SPICEMODEL: LTC2.LIB
pins: ?1 IN+, ?2 IN-, ?3 VCC, ?4 VEE, ?5 OUT

## LT6232
designator X?, comment Quad 215 MHz, Rail-to-Rail Output, 1.1nV/rtHz, 3.4mA Op Amp
VALUE2: LT6231; SPICEMODEL: LTC2.LIB
pins: ?1 IN+, ?2 IN-, ?3 OUT, ?4 VCC, ?5 VEE